# Altium schematic symbol library Microcontroller ARM.SchLib: 148 symbols (part 4 of 11)
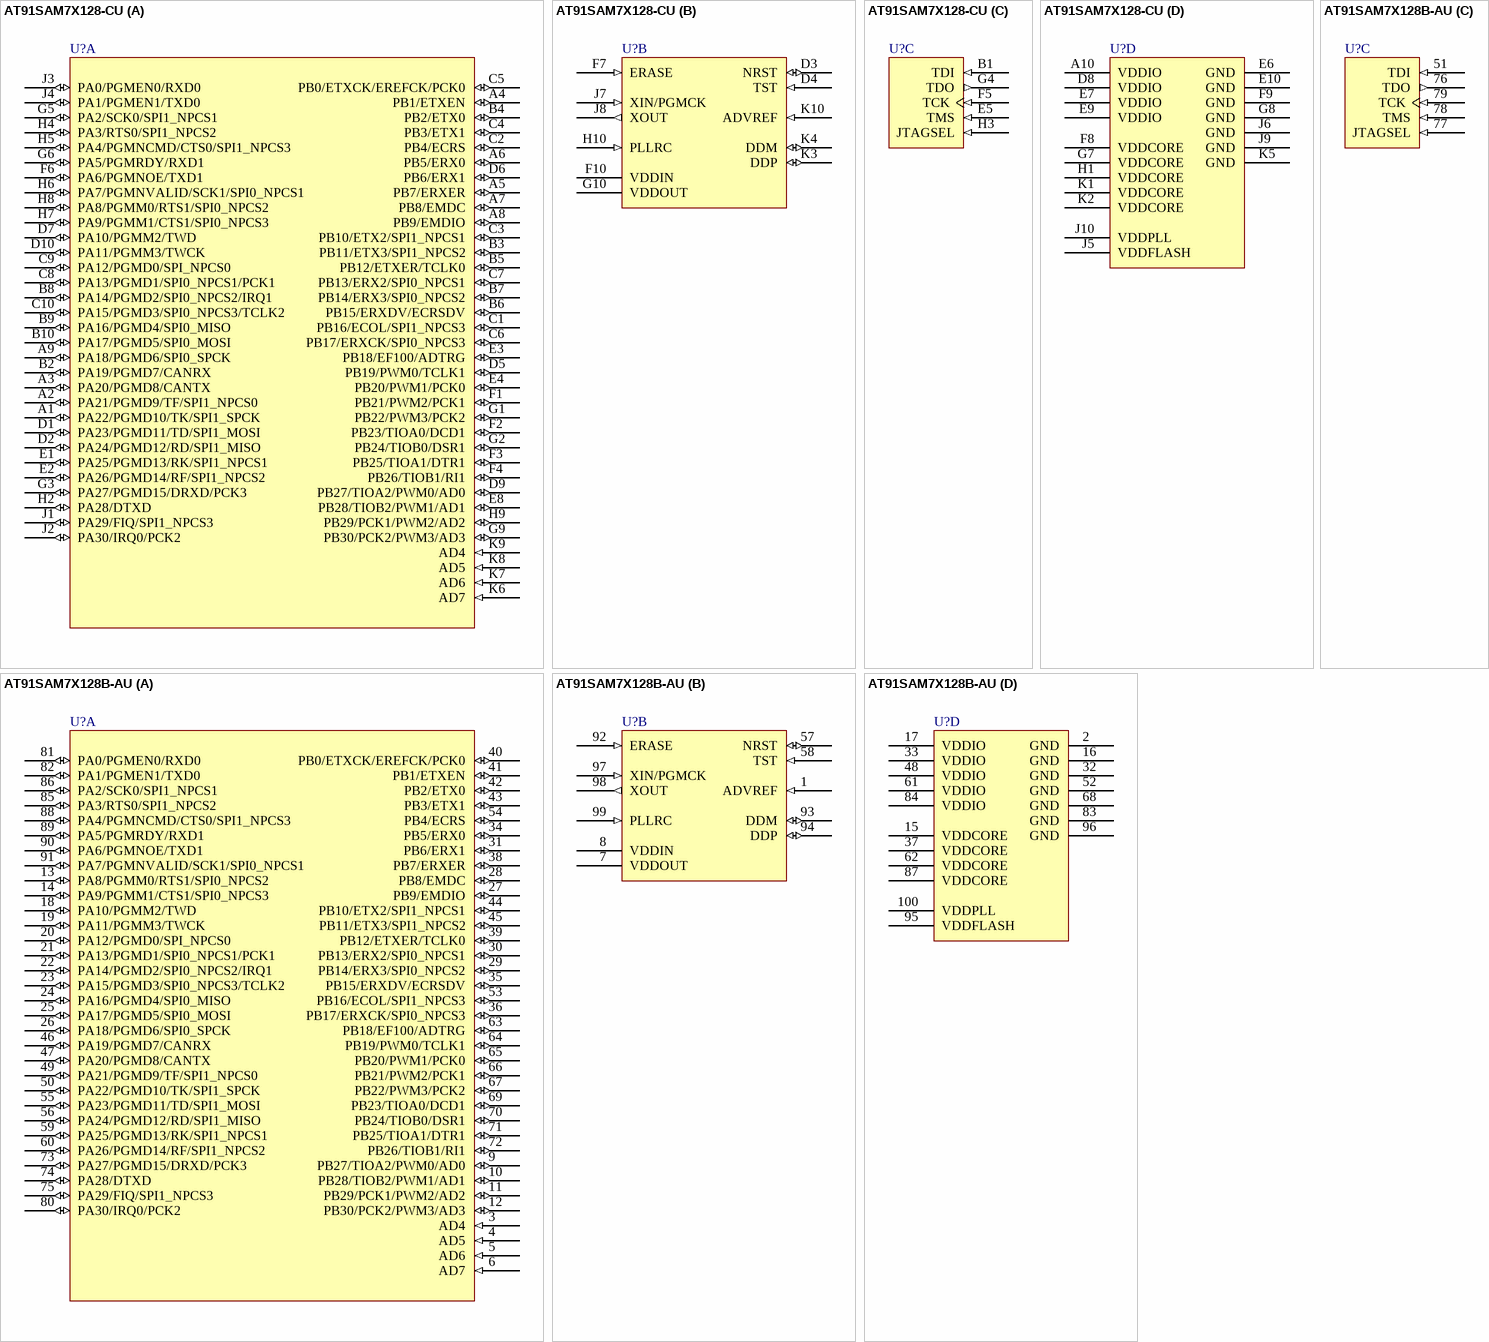
[diagram p64: symbols AT91SAM7X128-CU to AT91SAM7X128B-AU]

## AT91SAM7X128B-AU
designator U?
AT91 ARM Thumb-based 32-bit Microcontroller, 128KB Flash, 32KB SRAM, E-MAC, CAN, 100-Pin LQFP, Industrial Grade (-40°C to 85°C), Pb-Free; DatasheetVersion: revH, Feb-2009; PackageVersion: Apr-2006; PackageReference: LQFP100; PackageDescription: 100-Pin Thin Quad Flat Pack 0.5 mm Pitch; Code_JEDEC: MS-026-BED; ComponentLink1Description: Manufacturer URL; ComponentLink1URL: http://www.atmel.com/; ComponentLink2Description: AT91SAM7X Series Datasheet; ComponentLink2URL: http://www.atmel.com/dyn/resources/prod_documents/doc6120.pdf; ComponentLink3Description: AT91SAM7X Series Summary; ComponentLink3URL: http://www.atmel.com/dyn/resources/prod_documents/6120s.pdf; ComponentLink4Description: ARM7TDMI Reference Manual; ComponentLink4URL: http://www.atmel.com/dyn/resources/prod_documents/DDI0029G_7TDMI_R3_trm.pdf
footprint LQFP100_N (Thin QFP, 100-Leads, Body 14x14mm, Pitch 0.5mm, IPC Medium Density)
footprint LQFP100_L (Thin QFP, 100-Leads, Body 14x14mm, Pitch 0.5mm, IPC High Density)
footprint LQFP100_M (Thin QFP, 100-Leads, Body 14x14mm, Pitch 0.5mm, IPC Low Density)
part A pins: 3 AD4 (in), 4 AD5 (in), 5 AD6 (in), 6 AD7 (in), 9 PB27/TIOA2/PWM0/AD0 (io), 10 PB28/TIOB2/PWM1/AD1 (io), 11 PB29/PCK1/PWM2/AD2 (io), 12 PB30/PCK2/PWM3/AD3 (io), 13 PA8/PGMM0/RTS1/SPI0_NPCS2 (io), 14 PA9/PGMM1/CTS1/SPI0_NPCS3 (io), 18 PA10/PGMM2/TWD (io), 19 PA11/PGMM3/TWCK (io), 20 PA12/PGMD0/SPI_NPCS0 (io), 21 PA13/PGMD1/SPI0_NPCS1/PCK1 (io), 22 PA14/PGMD2/SPI0_NPCS2/IRQ1 (io), 23 PA15/PGMD3/SPI0_NPCS3/TCLK2 (io), 24 PA16/PGMD4/SPI0_MISO (io), 25 PA17/PGMD5/SPI0_MOSI (io), 26 PA18/PGMD6/SPI0_SPCK (io), 27 PB9/EMDIO (io), 28 PB8/EMDC (io), 29 PB14/ERX3/SPI0_NPCS2 (io), 30 PB13/ERX2/SPI0_NPCS1 (io), 31 PB6/ERX1 (io), 34 PB5/ERX0 (io), 35 PB15/ERXDV/ECRSDV (io), 36 PB17/ERXCK/SPI0_NPCS3 (io), 38 PB7/ERXER (io), 39 PB12/ETXER/TCLK0 (io), 40 PB0/ETXCK/EREFCK/PCK0 (io), 41 PB1/ETXEN (io), 42 PB2/ETX0 (io), 43 PB3/ETX1 (io), 44 PB10/ETX2/SPI1_NPCS1 (io), 45 PB11/ETX3/SPI1_NPCS2 (io), 46 PA19/PGMD7/CANRX (io), 47 PA20/PGMD8/CANTX (io), 49 PA21/PGMD9/TF/SPI1_NPCS0 (io), 50 PA22/PGMD10/TK/SPI1_SPCK (io), 53 PB16/ECOL/SPI1_NPCS3 (io), 54 PB4/ECRS (io), 55 PA23/PGMD11/TD/SPI1_MOSI (io), 56 PA24/PGMD12/RD/SPI1_MISO (io), 59 PA25/PGMD13/RK/SPI1_NPCS1 (io), 60 PA26/PGMD14/RF/SPI1_NPCS2 (io), 63 PB18/EF100/ADTRG (io), 64 PB19/PWM0/TCLK1 (io), 65 PB20/PWM1/PCK0 (io), 66 PB21/PWM2/PCK1 (io), 67 PB22/PWM3/PCK2 (io), 69 PB23/TIOA0/DCD1 (io), 70 PB24/TIOB0/DSR1 (io), 71 PB25/TIOA1/DTR1 (io), 72 PB26/TIOB1/RI1 (io), 73 PA27/PGMD15/DRXD/PCK3 (io), 74 PA28/DTXD (io), 75 PA29/FIQ/SPI1_NPCS3 (io), 80 PA30/IRQ0/PCK2 (io), 81 PA0/PGMEN0/RXD0 (io), 82 PA1/PGMEN1/TXD0 (io), 85 PA3/RTS0/SPI1_NPCS2 (io), 86 PA2/SCK0/SPI1_NPCS1 (io), 88 PA4/PGMNCMD/CTS0/SPI1_NPCS3 (io), 89 PA5/PGMRDY/RXD1 (io), 90 PA6/PGMNOE/TXD1 (io), 91 PA7/PGMNVALID/SCK1/SPI0_NPCS1 (io)
part B pins: 1 ADVREF (in), 7 VDDOUT (power), 8 VDDIN (power), 57 NRST (io), 58 TST (in), 92 ERASE (in), 93 DDM (io), 94 DDP (io), 97 XIN/PGMCK (in), 98 XOUT (out), 99 PLLRC (in)
part C pins: 51 TDI (in), 76 TDO (out), 77 JTAGSEL (in), 78 TMS (in), 79 TCK (in)
part D pins: 2 GND (power), 15 VDDCORE (power), 16 GND (power), 17 VDDIO (power), 32 GND (power), 33 VDDIO (power), 37 VDDCORE (power), 48 VDDIO (power), 52 GND (power), 61 VDDIO (power), 62 VDDCORE (power), 68 GND (power), 83 GND (power), 84 VDDIO (power), 87 VDDCORE (power), 95 VDDFLASH (power), 96 GND (power), 100 VDDPLL (power)

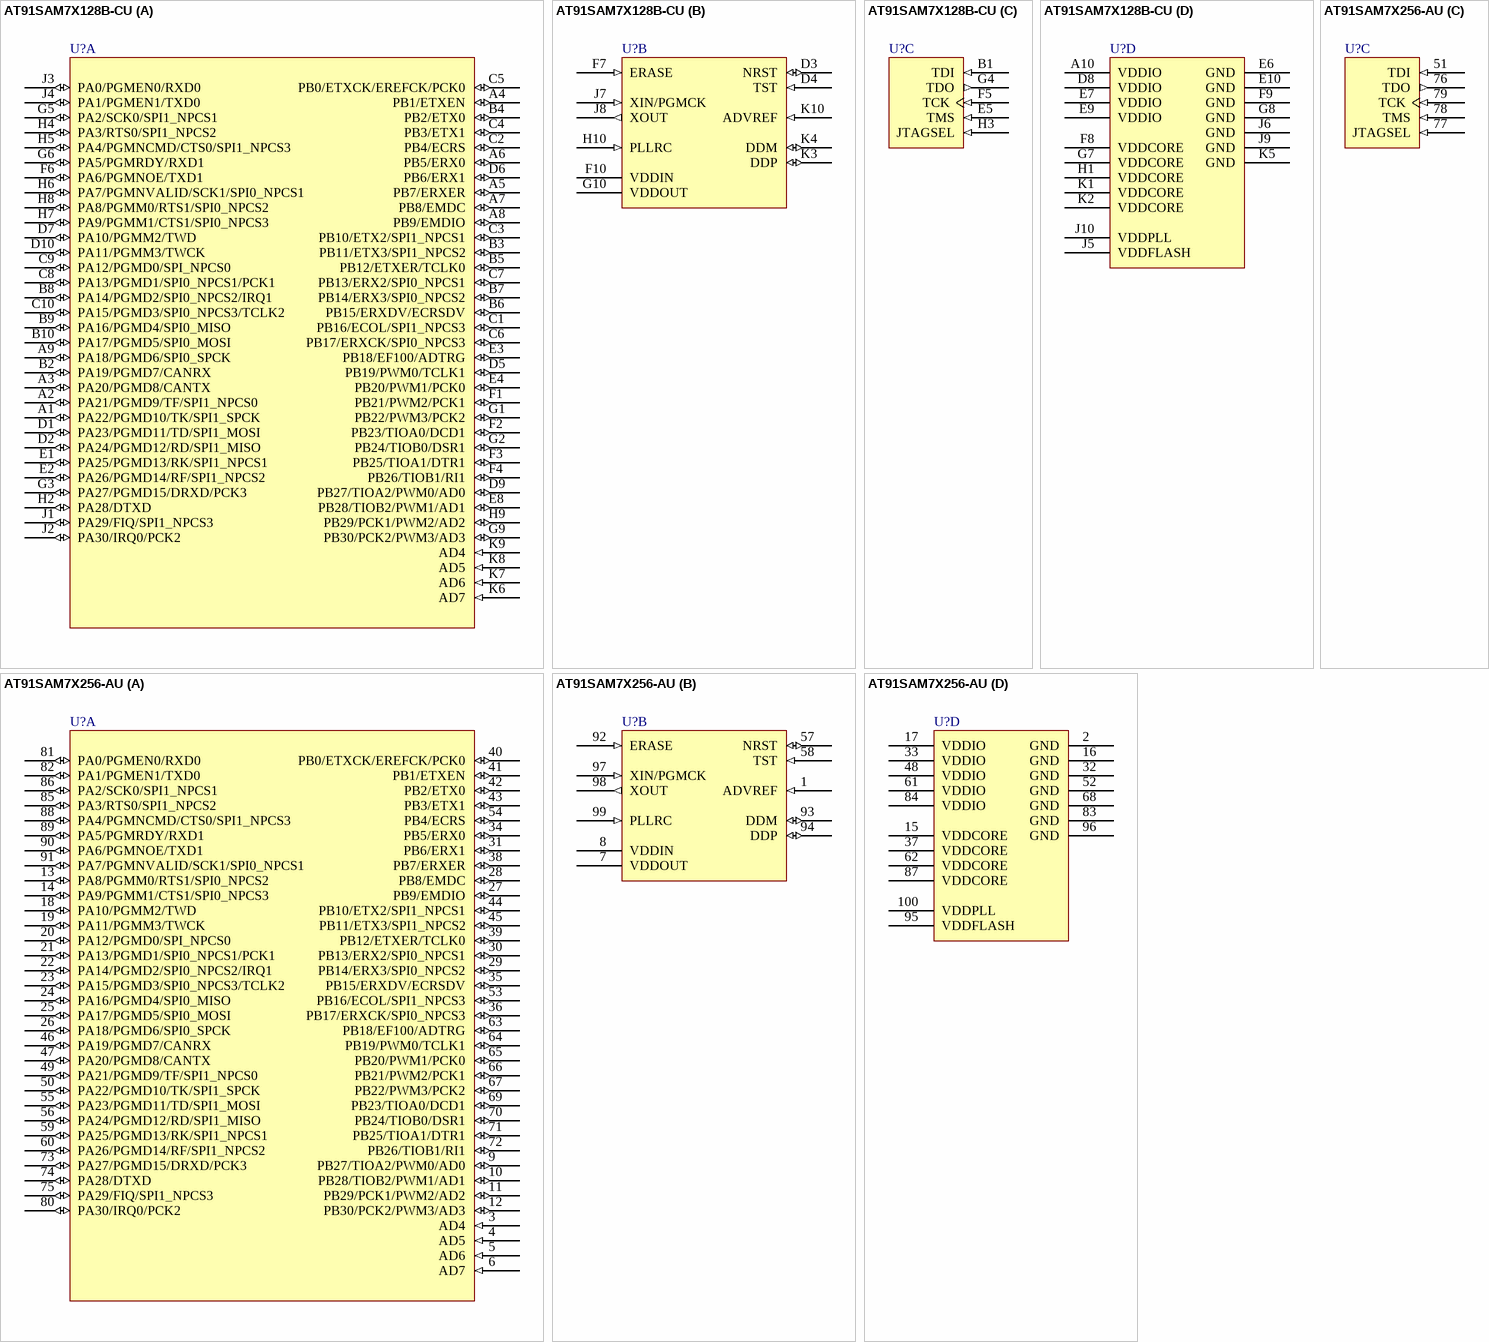
[diagram p19: symbols AT91SAM7X128B-CU to AT91SAM7X256-AU]

## AT91SAM7X128B-CU
designator U?
AT91 ARM Thumb-based 32-bit Microcontroller, 128KB Flash, 32KB SRAM, E-MAC, CAN, 100-Pin TFBGA, Industrial Grade (-40°C to 85°C), Pb-Free; DatasheetVersion: revH, Feb-2009; PackageVersion: 2004; PackageReference: TFBGA100; PackageDescription: 100-Ball Thin Fine Ball Grid Array, 9 x 9 x1.1 mm Body, 0.80 mm Pitch; ComponentLink1Description: Manufacturer URL; ComponentLink1URL: http://www.atmel.com/; ComponentLink2Description: AT91SAM7X Series Datasheet; ComponentLink2URL: http://www.atmel.com/dyn/resources/prod_documents/doc6120.pdf; ComponentLink3Description: AT91SAM7X Series Summary; ComponentLink3URL: http://www.atmel.com/dyn/resources/prod_documents/6120s.pdf; ComponentLink4Description: ARM7TDMI Reference Manual; ComponentLink4URL: http://www.atmel.com/dyn/resources/prod_documents/DDI0029G_7TDMI_R3_trm.pdf
footprint TFBGA100 (BGA, 100-Leads, Body 9x9mm, Pitch 0.8mm)
part A pins: A1 PA22/PGMD10/TK/SPI1_SPCK (io), A2 PA21/PGMD9/TF/SPI1_NPCS0 (io), A3 PA20/PGMD8/CANTX (io), A4 PB1/ETXEN (io), A5 PB7/ERXER (io), A6 PB5/ERX0 (io), A7 PB8/EMDC (io), A8 PB9/EMDIO (io), A9 PA18/PGMD6/SPI0_SPCK (io), B2 PA19/PGMD7/CANRX (io), B3 PB11/ETX3/SPI1_NPCS2 (io), B4 PB2/ETX0 (io), B5 PB12/ETXER/TCLK0 (io), B6 PB15/ERXDV/ECRSDV (io), B7 PB14/ERX3/SPI0_NPCS2 (io), B8 PA14/PGMD2/SPI0_NPCS2/IRQ1 (io), B9 PA16/PGMD4/SPI0_MISO (io), B10 PA17/PGMD5/SPI0_MOSI (io), C1 PB16/ECOL/SPI1_NPCS3 (io), C2 PB4/ECRS (io), C3 PB10/ETX2/SPI1_NPCS1 (io), C4 PB3/ETX1 (io), C5 PB0/ETXCK/EREFCK/PCK0 (io), C6 PB17/ERXCK/SPI0_NPCS3 (io), C7 PB13/ERX2/SPI0_NPCS1 (io), C8 PA13/PGMD1/SPI0_NPCS1/PCK1 (io), C9 PA12/PGMD0/SPI_NPCS0 (io), C10 PA15/PGMD3/SPI0_NPCS3/TCLK2 (io), D1 PA23/PGMD11/TD/SPI1_MOSI (io), D2 PA24/PGMD12/RD/SPI1_MISO (io), D5 PB19/PWM0/TCLK1 (io), D6 PB6/ERX1 (io), D7 PA10/PGMM2/TWD (io), D9 PB27/TIOA2/PWM0/AD0 (io), D10 PA11/PGMM3/TWCK (io), E1 PA25/PGMD13/RK/SPI1_NPCS1 (io), E2 PA26/PGMD14/RF/SPI1_NPCS2 (io), E3 PB18/EF100/ADTRG (io), E4 PB20/PWM1/PCK0 (io), E8 PB28/TIOB2/PWM1/AD1 (io), F1 PB21/PWM2/PCK1 (io), F2 PB23/TIOA0/DCD1 (io), F3 PB25/TIOA1/DTR1 (io), F4 PB26/TIOB1/RI1 (io), F6 PA6/PGMNOE/TXD1 (io), G1 PB22/PWM3/PCK2 (io), G2 PB24/TIOB0/DSR1 (io), G3 PA27/PGMD15/DRXD/PCK3 (io), G5 PA2/SCK0/SPI1_NPCS1 (io), G6 PA5/PGMRDY/RXD1 (io), G9 PB30/PCK2/PWM3/AD3 (io), H2 PA28/DTXD (io), H4 PA3/RTS0/SPI1_NPCS2 (io), H5 PA4/PGMNCMD/CTS0/SPI1_NPCS3 (io), H6 PA7/PGMNVALID/SCK1/SPI0_NPCS1 (io), H7 PA9/PGMM1/CTS1/SPI0_NPCS3 (io), H8 PA8/PGMM0/RTS1/SPI0_NPCS2 (io), H9 PB29/PCK1/PWM2/AD2 (io), J1 PA29/FIQ/SPI1_NPCS3 (io), J2 PA30/IRQ0/PCK2 (io), J3 PA0/PGMEN0/RXD0 (io), J4 PA1/PGMEN1/TXD0 (io), K6 AD7 (in), K7 AD6 (in), K8 AD5 (in), K9 AD4 (in)
part B pins: D3 NRST (io), D4 TST (in), F7 ERASE (in), F10 VDDIN (power), G10 VDDOUT (power), H10 PLLRC (in), J7 XIN/PGMCK (in), J8 XOUT (out), K3 DDP (io), K4 DDM (io), K10 ADVREF (in)
part C pins: B1 TDI (in), E5 TMS (in), F5 TCK (in), G4 TDO (out), H3 JTAGSEL (in)
part D pins: A10 VDDIO (power), D8 VDDIO (power), E6 GND (power), E7 VDDIO (power), E9 VDDIO (power), E10 GND (power), F8 VDDCORE (power), F9 GND (power), G7 VDDCORE (power), G8 GND (power), H1 VDDCORE (power), J5 VDDFLASH (power), J6 GND (power), J9 GND (power), J10 VDDPLL (power), K1 VDDCORE (power), K2 VDDCORE (power), K5 GND (power)

## AT91SAM7X256-AU
designator U?
AT91 ARM Thumb-based 32-bit Microcontroller, 256KB Flash, 64KB SRAM, E-MAC, CAN, 100-Pin LQFP, Industrial Grade (-40°C to 85°C), Pb-Free; DatasheetVersion: revH, Feb-2009; PackageVersion: Apr-2006; PackageReference: LQFP100; PackageDescription: 100-Pin Thin Quad Flat Pack 0.5 mm Pitch; Code_JEDEC: MS-026-BED; ComponentLink1Description: Manufacturer URL; ComponentLink1URL: http://www.atmel.com/; ComponentLink2Description: AT91SAM7X Series Datasheet; ComponentLink2URL: http://www.atmel.com/dyn/resources/prod_documents/doc6120.pdf; ComponentLink3Description: AT91SAM7X Series Summary; ComponentLink3URL: http://www.atmel.com/dyn/resources/prod_documents/6120s.pdf; ComponentLink4Description: ARM7TDMI Reference Manual; ComponentLink4URL: http://www.atmel.com/dyn/resources/prod_documents/DDI0029G_7TDMI_R3_trm.pdf
footprint LQFP100_N (Thin QFP, 100-Leads, Body 14x14mm, Pitch 0.5mm, IPC Medium Density)
footprint LQFP100_L (Thin QFP, 100-Leads, Body 14x14mm, Pitch 0.5mm, IPC High Density)
footprint LQFP100_M (Thin QFP, 100-Leads, Body 14x14mm, Pitch 0.5mm, IPC Low Density)
part A pins: 3 AD4 (in), 4 AD5 (in), 5 AD6 (in), 6 AD7 (in), 9 PB27/TIOA2/PWM0/AD0 (io), 10 PB28/TIOB2/PWM1/AD1 (io), 11 PB29/PCK1/PWM2/AD2 (io), 12 PB30/PCK2/PWM3/AD3 (io), 13 PA8/PGMM0/RTS1/SPI0_NPCS2 (io), 14 PA9/PGMM1/CTS1/SPI0_NPCS3 (io), 18 PA10/PGMM2/TWD (io), 19 PA11/PGMM3/TWCK (io), 20 PA12/PGMD0/SPI_NPCS0 (io), 21 PA13/PGMD1/SPI0_NPCS1/PCK1 (io), 22 PA14/PGMD2/SPI0_NPCS2/IRQ1 (io), 23 PA15/PGMD3/SPI0_NPCS3/TCLK2 (io), 24 PA16/PGMD4/SPI0_MISO (io), 25 PA17/PGMD5/SPI0_MOSI (io), 26 PA18/PGMD6/SPI0_SPCK (io), 27 PB9/EMDIO (io), 28 PB8/EMDC (io), 29 PB14/ERX3/SPI0_NPCS2 (io), 30 PB13/ERX2/SPI0_NPCS1 (io), 31 PB6/ERX1 (io), 34 PB5/ERX0 (io), 35 PB15/ERXDV/ECRSDV (io), 36 PB17/ERXCK/SPI0_NPCS3 (io), 38 PB7/ERXER (io), 39 PB12/ETXER/TCLK0 (io), 40 PB0/ETXCK/EREFCK/PCK0 (io), 41 PB1/ETXEN (io), 42 PB2/ETX0 (io), 43 PB3/ETX1 (io), 44 PB10/ETX2/SPI1_NPCS1 (io), 45 PB11/ETX3/SPI1_NPCS2 (io), 46 PA19/PGMD7/CANRX (io), 47 PA20/PGMD8/CANTX (io), 49 PA21/PGMD9/TF/SPI1_NPCS0 (io), 50 PA22/PGMD10/TK/SPI1_SPCK (io), 53 PB16/ECOL/SPI1_NPCS3 (io), 54 PB4/ECRS (io), 55 PA23/PGMD11/TD/SPI1_MOSI (io), 56 PA24/PGMD12/RD/SPI1_MISO (io), 59 PA25/PGMD13/RK/SPI1_NPCS1 (io), 60 PA26/PGMD14/RF/SPI1_NPCS2 (io), 63 PB18/EF100/ADTRG (io), 64 PB19/PWM0/TCLK1 (io), 65 PB20/PWM1/PCK0 (io), 66 PB21/PWM2/PCK1 (io), 67 PB22/PWM3/PCK2 (io), 69 PB23/TIOA0/DCD1 (io), 70 PB24/TIOB0/DSR1 (io), 71 PB25/TIOA1/DTR1 (io), 72 PB26/TIOB1/RI1 (io), 73 PA27/PGMD15/DRXD/PCK3 (io), 74 PA28/DTXD (io), 75 PA29/FIQ/SPI1_NPCS3 (io), 80 PA30/IRQ0/PCK2 (io), 81 PA0/PGMEN0/RXD0 (io), 82 PA1/PGMEN1/TXD0 (io), 85 PA3/RTS0/SPI1_NPCS2 (io), 86 PA2/SCK0/SPI1_NPCS1 (io), 88 PA4/PGMNCMD/CTS0/SPI1_NPCS3 (io), 89 PA5/PGMRDY/RXD1 (io), 90 PA6/PGMNOE/TXD1 (io), 91 PA7/PGMNVALID/SCK1/SPI0_NPCS1 (io)
part B pins: 1 ADVREF (in), 7 VDDOUT (power), 8 VDDIN (power), 57 NRST (io), 58 TST (in), 92 ERASE (in), 93 DDM (io), 94 DDP (io), 97 XIN/PGMCK (in), 98 XOUT (out), 99 PLLRC (in)
part C pins: 51 TDI (in), 76 TDO (out), 77 JTAGSEL (in), 78 TMS (in), 79 TCK (in)
part D pins: 2 GND (power), 15 VDDCORE (power), 16 GND (power), 17 VDDIO (power), 32 GND (power), 33 VDDIO (power), 37 VDDCORE (power), 48 VDDIO (power), 52 GND (power), 61 VDDIO (power), 62 VDDCORE (power), 68 GND (power), 83 GND (power), 84 VDDIO (power), 87 VDDCORE (power), 95 VDDFLASH (power), 96 GND (power), 100 VDDPLL (power)

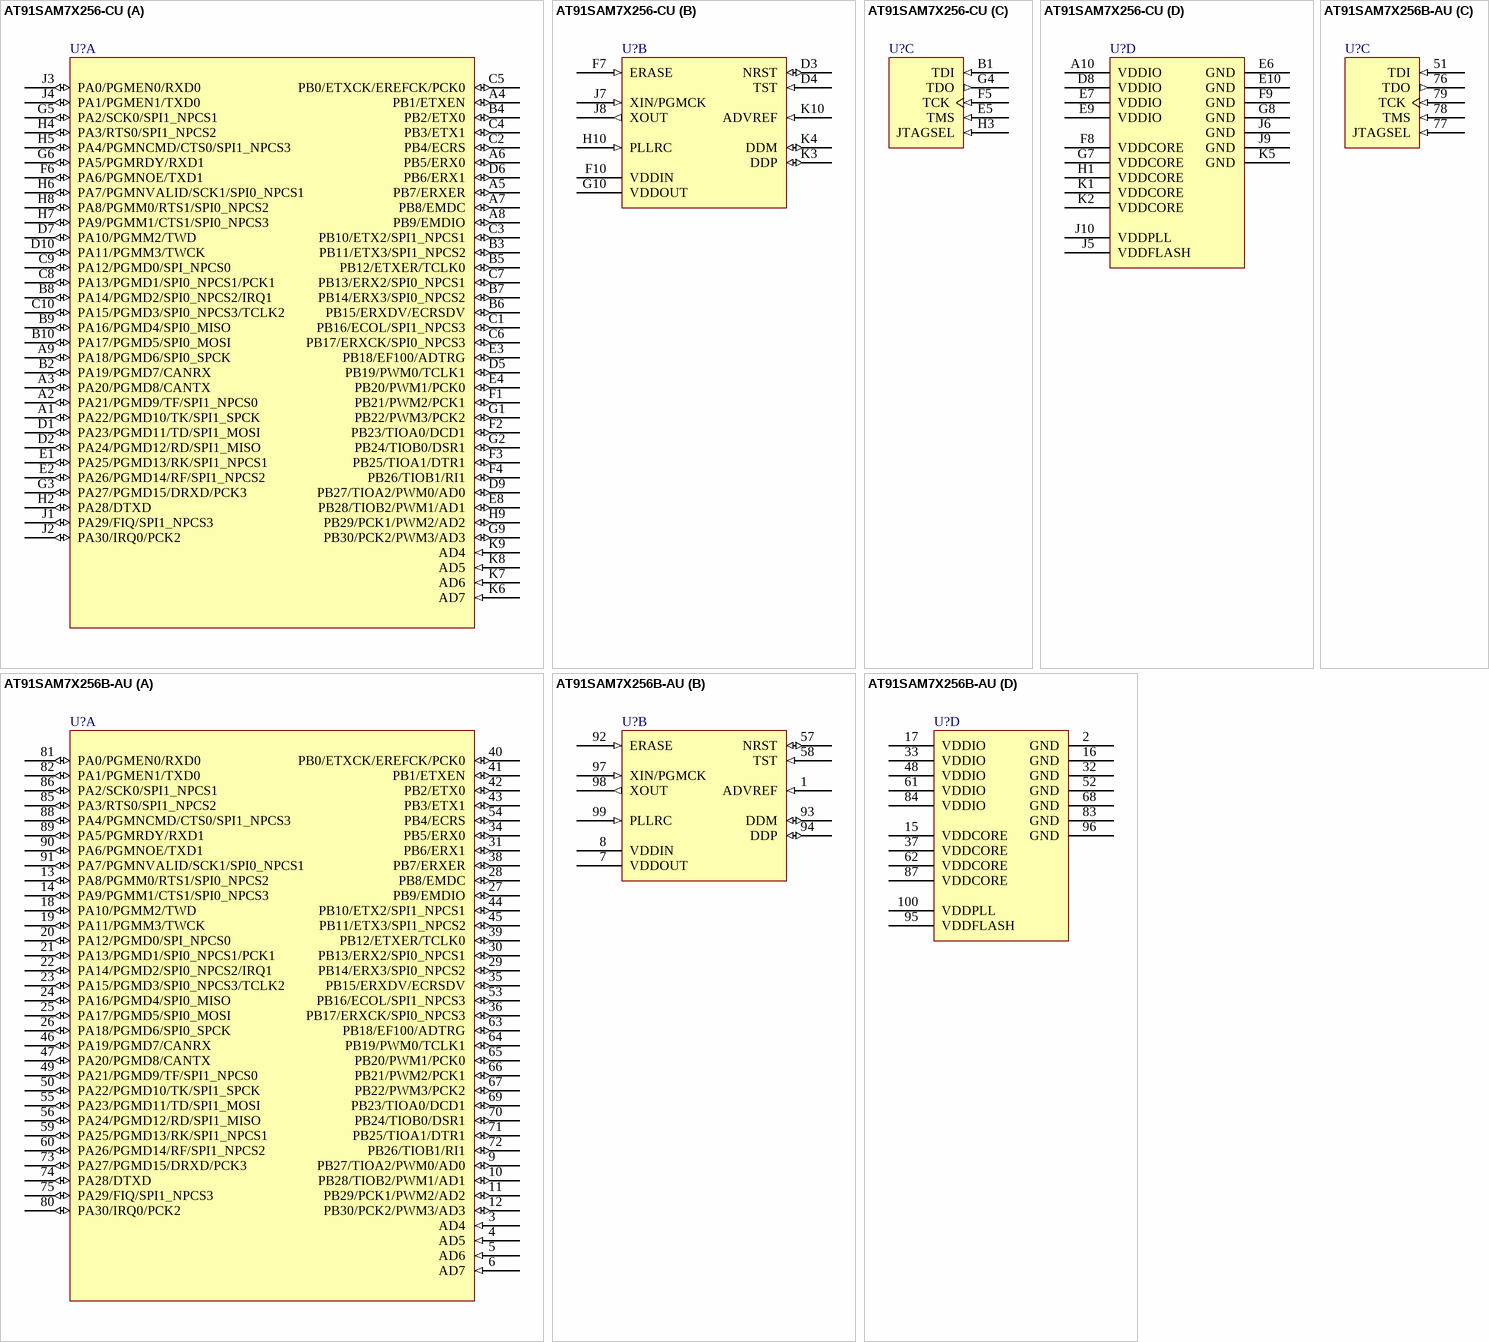
[diagram p20: symbols AT91SAM7X256-CU to AT91SAM7X256B-AU]

## AT91SAM7X256-CU
designator U?
AT91 ARM Thumb-based 32-bit Microcontroller, 256KB Flash, 64KB SRAM, E-MAC, CAN, 100-Pin TFBGA, Industrial Grade (-40°C to 85°C), Pb-Free; DatasheetVersion: revH, Feb-2009; PackageVersion: 2004; PackageReference: TFBGA100; PackageDescription: 100-Ball Thin Fine Ball Grid Array, 9 x 9 x1.1 mm Body, 0.80 mm Pitch; ComponentLink1Description: Manufacturer URL; ComponentLink1URL: http://www.atmel.com/; ComponentLink2Description: AT91SAM7X Series Datasheet; ComponentLink2URL: http://www.atmel.com/dyn/resources/prod_documents/doc6120.pdf; ComponentLink3Description: AT91SAM7X Series Summary; ComponentLink3URL: http://www.atmel.com/dyn/resources/prod_documents/6120s.pdf; ComponentLink4Description: ARM7TDMI Reference Manual; ComponentLink4URL: http://www.atmel.com/dyn/resources/prod_documents/DDI0029G_7TDMI_R3_trm.pdf
footprint TFBGA100 (BGA, 100-Leads, Body 9x9mm, Pitch 0.8mm)
part A pins: A1 PA22/PGMD10/TK/SPI1_SPCK (io), A2 PA21/PGMD9/TF/SPI1_NPCS0 (io), A3 PA20/PGMD8/CANTX (io), A4 PB1/ETXEN (io), A5 PB7/ERXER (io), A6 PB5/ERX0 (io), A7 PB8/EMDC (io), A8 PB9/EMDIO (io), A9 PA18/PGMD6/SPI0_SPCK (io), B2 PA19/PGMD7/CANRX (io), B3 PB11/ETX3/SPI1_NPCS2 (io), B4 PB2/ETX0 (io), B5 PB12/ETXER/TCLK0 (io), B6 PB15/ERXDV/ECRSDV (io), B7 PB14/ERX3/SPI0_NPCS2 (io), B8 PA14/PGMD2/SPI0_NPCS2/IRQ1 (io), B9 PA16/PGMD4/SPI0_MISO (io), B10 PA17/PGMD5/SPI0_MOSI (io), C1 PB16/ECOL/SPI1_NPCS3 (io), C2 PB4/ECRS (io), C3 PB10/ETX2/SPI1_NPCS1 (io), C4 PB3/ETX1 (io), C5 PB0/ETXCK/EREFCK/PCK0 (io), C6 PB17/ERXCK/SPI0_NPCS3 (io), C7 PB13/ERX2/SPI0_NPCS1 (io), C8 PA13/PGMD1/SPI0_NPCS1/PCK1 (io), C9 PA12/PGMD0/SPI_NPCS0 (io), C10 PA15/PGMD3/SPI0_NPCS3/TCLK2 (io), D1 PA23/PGMD11/TD/SPI1_MOSI (io), D2 PA24/PGMD12/RD/SPI1_MISO (io), D5 PB19/PWM0/TCLK1 (io), D6 PB6/ERX1 (io), D7 PA10/PGMM2/TWD (io), D9 PB27/TIOA2/PWM0/AD0 (io), D10 PA11/PGMM3/TWCK (io), E1 PA25/PGMD13/RK/SPI1_NPCS1 (io), E2 PA26/PGMD14/RF/SPI1_NPCS2 (io), E3 PB18/EF100/ADTRG (io), E4 PB20/PWM1/PCK0 (io), E8 PB28/TIOB2/PWM1/AD1 (io), F1 PB21/PWM2/PCK1 (io), F2 PB23/TIOA0/DCD1 (io), F3 PB25/TIOA1/DTR1 (io), F4 PB26/TIOB1/RI1 (io), F6 PA6/PGMNOE/TXD1 (io), G1 PB22/PWM3/PCK2 (io), G2 PB24/TIOB0/DSR1 (io), G3 PA27/PGMD15/DRXD/PCK3 (io), G5 PA2/SCK0/SPI1_NPCS1 (io), G6 PA5/PGMRDY/RXD1 (io), G9 PB30/PCK2/PWM3/AD3 (io), H2 PA28/DTXD (io), H4 PA3/RTS0/SPI1_NPCS2 (io), H5 PA4/PGMNCMD/CTS0/SPI1_NPCS3 (io), H6 PA7/PGMNVALID/SCK1/SPI0_NPCS1 (io), H7 PA9/PGMM1/CTS1/SPI0_NPCS3 (io), H8 PA8/PGMM0/RTS1/SPI0_NPCS2 (io), H9 PB29/PCK1/PWM2/AD2 (io), J1 PA29/FIQ/SPI1_NPCS3 (io), J2 PA30/IRQ0/PCK2 (io), J3 PA0/PGMEN0/RXD0 (io), J4 PA1/PGMEN1/TXD0 (io), K6 AD7 (in), K7 AD6 (in), K8 AD5 (in), K9 AD4 (in)
part B pins: D3 NRST (io), D4 TST (in), F7 ERASE (in), F10 VDDIN (power), G10 VDDOUT (power), H10 PLLRC (in), J7 XIN/PGMCK (in), J8 XOUT (out), K3 DDP (io), K4 DDM (io), K10 ADVREF (in)
part C pins: B1 TDI (in), E5 TMS (in), F5 TCK (in), G4 TDO (out), H3 JTAGSEL (in)
part D pins: A10 VDDIO (power), D8 VDDIO (power), E6 GND (power), E7 VDDIO (power), E9 VDDIO (power), E10 GND (power), F8 VDDCORE (power), F9 GND (power), G7 VDDCORE (power), G8 GND (power), H1 VDDCORE (power), J5 VDDFLASH (power), J6 GND (power), J9 GND (power), J10 VDDPLL (power), K1 VDDCORE (power), K2 VDDCORE (power), K5 GND (power)

## AT91SAM7X256B-AU
designator U?
AT91 ARM Thumb-based 32-bit Microcontroller, 256KB Flash, 64KB SRAM, E-MAC, CAN, 100-Pin LQFP, Industrial Grade (-40°C to 85°C), Pb-Free; DatasheetVersion: revH, Feb-2009; PackageVersion: Apr-2006; PackageReference: LQFP100; PackageDescription: 100-Pin Thin Quad Flat Pack 0.5 mm Pitch; Code_JEDEC: MS-026-BED; ComponentLink1Description: Manufacturer URL; ComponentLink1URL: http://www.atmel.com/; ComponentLink2Description: AT91SAM7X Series Datasheet; ComponentLink2URL: http://www.atmel.com/dyn/resources/prod_documents/doc6120.pdf; ComponentLink3Description: AT91SAM7X Series Summary; ComponentLink3URL: http://www.atmel.com/dyn/resources/prod_documents/6120s.pdf; ComponentLink4Description: ARM7TDMI Reference Manual; ComponentLink4URL: http://www.atmel.com/dyn/resources/prod_documents/DDI0029G_7TDMI_R3_trm.pdf
footprint LQFP100_N (Thin QFP, 100-Leads, Body 14x14mm, Pitch 0.5mm, IPC Medium Density)
footprint LQFP100_L (Thin QFP, 100-Leads, Body 14x14mm, Pitch 0.5mm, IPC High Density)
footprint LQFP100_M (Thin QFP, 100-Leads, Body 14x14mm, Pitch 0.5mm, IPC Low Density)
part A pins: 3 AD4 (in), 4 AD5 (in), 5 AD6 (in), 6 AD7 (in), 9 PB27/TIOA2/PWM0/AD0 (io), 10 PB28/TIOB2/PWM1/AD1 (io), 11 PB29/PCK1/PWM2/AD2 (io), 12 PB30/PCK2/PWM3/AD3 (io), 13 PA8/PGMM0/RTS1/SPI0_NPCS2 (io), 14 PA9/PGMM1/CTS1/SPI0_NPCS3 (io), 18 PA10/PGMM2/TWD (io), 19 PA11/PGMM3/TWCK (io), 20 PA12/PGMD0/SPI_NPCS0 (io), 21 PA13/PGMD1/SPI0_NPCS1/PCK1 (io), 22 PA14/PGMD2/SPI0_NPCS2/IRQ1 (io), 23 PA15/PGMD3/SPI0_NPCS3/TCLK2 (io), 24 PA16/PGMD4/SPI0_MISO (io), 25 PA17/PGMD5/SPI0_MOSI (io), 26 PA18/PGMD6/SPI0_SPCK (io), 27 PB9/EMDIO (io), 28 PB8/EMDC (io), 29 PB14/ERX3/SPI0_NPCS2 (io), 30 PB13/ERX2/SPI0_NPCS1 (io), 31 PB6/ERX1 (io), 34 PB5/ERX0 (io), 35 PB15/ERXDV/ECRSDV (io), 36 PB17/ERXCK/SPI0_NPCS3 (io), 38 PB7/ERXER (io), 39 PB12/ETXER/TCLK0 (io), 40 PB0/ETXCK/EREFCK/PCK0 (io), 41 PB1/ETXEN (io), 42 PB2/ETX0 (io), 43 PB3/ETX1 (io), 44 PB10/ETX2/SPI1_NPCS1 (io), 45 PB11/ETX3/SPI1_NPCS2 (io), 46 PA19/PGMD7/CANRX (io), 47 PA20/PGMD8/CANTX (io), 49 PA21/PGMD9/TF/SPI1_NPCS0 (io), 50 PA22/PGMD10/TK/SPI1_SPCK (io), 53 PB16/ECOL/SPI1_NPCS3 (io), 54 PB4/ECRS (io), 55 PA23/PGMD11/TD/SPI1_MOSI (io), 56 PA24/PGMD12/RD/SPI1_MISO (io), 59 PA25/PGMD13/RK/SPI1_NPCS1 (io), 60 PA26/PGMD14/RF/SPI1_NPCS2 (io), 63 PB18/EF100/ADTRG (io), 64 PB19/PWM0/TCLK1 (io), 65 PB20/PWM1/PCK0 (io), 66 PB21/PWM2/PCK1 (io), 67 PB22/PWM3/PCK2 (io), 69 PB23/TIOA0/DCD1 (io), 70 PB24/TIOB0/DSR1 (io), 71 PB25/TIOA1/DTR1 (io), 72 PB26/TIOB1/RI1 (io), 73 PA27/PGMD15/DRXD/PCK3 (io), 74 PA28/DTXD (io), 75 PA29/FIQ/SPI1_NPCS3 (io), 80 PA30/IRQ0/PCK2 (io), 81 PA0/PGMEN0/RXD0 (io), 82 PA1/PGMEN1/TXD0 (io), 85 PA3/RTS0/SPI1_NPCS2 (io), 86 PA2/SCK0/SPI1_NPCS1 (io), 88 PA4/PGMNCMD/CTS0/SPI1_NPCS3 (io), 89 PA5/PGMRDY/RXD1 (io), 90 PA6/PGMNOE/TXD1 (io), 91 PA7/PGMNVALID/SCK1/SPI0_NPCS1 (io)
part B pins: 1 ADVREF (in), 7 VDDOUT (power), 8 VDDIN (power), 57 NRST (io), 58 TST (in), 92 ERASE (in), 93 DDM (io), 94 DDP (io), 97 XIN/PGMCK (in), 98 XOUT (out), 99 PLLRC (in)
part C pins: 51 TDI (in), 76 TDO (out), 77 JTAGSEL (in), 78 TMS (in), 79 TCK (in)
part D pins: 2 GND (power), 15 VDDCORE (power), 16 GND (power), 17 VDDIO (power), 32 GND (power), 33 VDDIO (power), 37 VDDCORE (power), 48 VDDIO (power), 52 GND (power), 61 VDDIO (power), 62 VDDCORE (power), 68 GND (power), 83 GND (power), 84 VDDIO (power), 87 VDDCORE (power), 95 VDDFLASH (power), 96 GND (power), 100 VDDPLL (power)

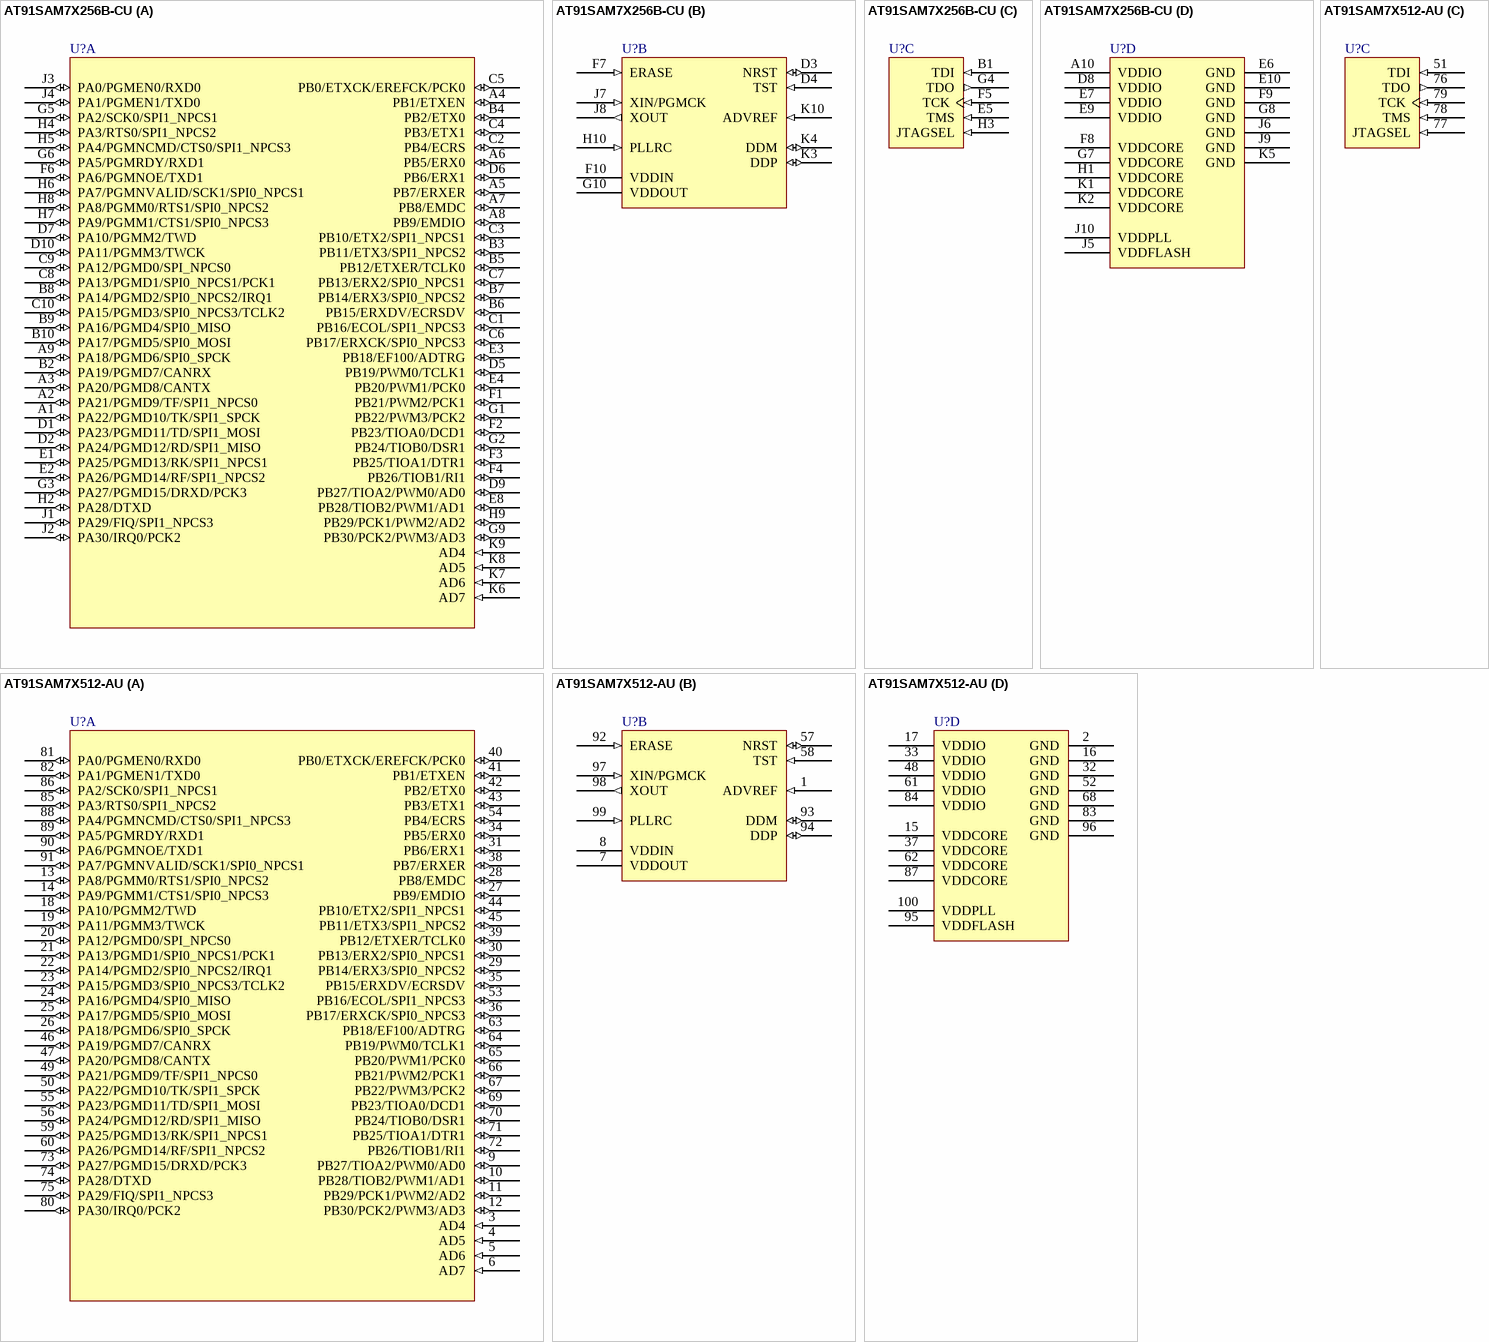
[diagram p21: symbols AT91SAM7X256B-CU to AT91SAM7X512-AU]

## AT91SAM7X256B-CU
designator U?
AT91 ARM Thumb-based 32-bit Microcontroller, 256KB Flash, 64KB SRAM, E-MAC, CAN, 100-Pin TFBGA, Industrial Grade (-40°C to 85°C), Pb-Free; DatasheetVersion: revH, Feb-2009; PackageVersion: 2004; PackageReference: TFBGA100; PackageDescription: 100-Ball Thin Fine Ball Grid Array, 9 x 9 x1.1 mm Body, 0.80 mm Pitch; ComponentLink1Description: Manufacturer URL; ComponentLink1URL: http://www.atmel.com/; ComponentLink2Description: AT91SAM7X Series Datasheet; ComponentLink2URL: http://www.atmel.com/dyn/resources/prod_documents/doc6120.pdf; ComponentLink3Description: AT91SAM7X Series Summary; ComponentLink3URL: http://www.atmel.com/dyn/resources/prod_documents/6120s.pdf; ComponentLink4Description: ARM7TDMI Reference Manual; ComponentLink4URL: http://www.atmel.com/dyn/resources/prod_documents/DDI0029G_7TDMI_R3_trm.pdf
footprint TFBGA100 (BGA, 100-Leads, Body 9x9mm, Pitch 0.8mm)
part A pins: A1 PA22/PGMD10/TK/SPI1_SPCK (io), A2 PA21/PGMD9/TF/SPI1_NPCS0 (io), A3 PA20/PGMD8/CANTX (io), A4 PB1/ETXEN (io), A5 PB7/ERXER (io), A6 PB5/ERX0 (io), A7 PB8/EMDC (io), A8 PB9/EMDIO (io), A9 PA18/PGMD6/SPI0_SPCK (io), B2 PA19/PGMD7/CANRX (io), B3 PB11/ETX3/SPI1_NPCS2 (io), B4 PB2/ETX0 (io), B5 PB12/ETXER/TCLK0 (io), B6 PB15/ERXDV/ECRSDV (io), B7 PB14/ERX3/SPI0_NPCS2 (io), B8 PA14/PGMD2/SPI0_NPCS2/IRQ1 (io), B9 PA16/PGMD4/SPI0_MISO (io), B10 PA17/PGMD5/SPI0_MOSI (io), C1 PB16/ECOL/SPI1_NPCS3 (io), C2 PB4/ECRS (io), C3 PB10/ETX2/SPI1_NPCS1 (io), C4 PB3/ETX1 (io), C5 PB0/ETXCK/EREFCK/PCK0 (io), C6 PB17/ERXCK/SPI0_NPCS3 (io), C7 PB13/ERX2/SPI0_NPCS1 (io), C8 PA13/PGMD1/SPI0_NPCS1/PCK1 (io), C9 PA12/PGMD0/SPI_NPCS0 (io), C10 PA15/PGMD3/SPI0_NPCS3/TCLK2 (io), D1 PA23/PGMD11/TD/SPI1_MOSI (io), D2 PA24/PGMD12/RD/SPI1_MISO (io), D5 PB19/PWM0/TCLK1 (io), D6 PB6/ERX1 (io), D7 PA10/PGMM2/TWD (io), D9 PB27/TIOA2/PWM0/AD0 (io), D10 PA11/PGMM3/TWCK (io), E1 PA25/PGMD13/RK/SPI1_NPCS1 (io), E2 PA26/PGMD14/RF/SPI1_NPCS2 (io), E3 PB18/EF100/ADTRG (io), E4 PB20/PWM1/PCK0 (io), E8 PB28/TIOB2/PWM1/AD1 (io), F1 PB21/PWM2/PCK1 (io), F2 PB23/TIOA0/DCD1 (io), F3 PB25/TIOA1/DTR1 (io), F4 PB26/TIOB1/RI1 (io), F6 PA6/PGMNOE/TXD1 (io), G1 PB22/PWM3/PCK2 (io), G2 PB24/TIOB0/DSR1 (io), G3 PA27/PGMD15/DRXD/PCK3 (io), G5 PA2/SCK0/SPI1_NPCS1 (io), G6 PA5/PGMRDY/RXD1 (io), G9 PB30/PCK2/PWM3/AD3 (io), H2 PA28/DTXD (io), H4 PA3/RTS0/SPI1_NPCS2 (io), H5 PA4/PGMNCMD/CTS0/SPI1_NPCS3 (io), H6 PA7/PGMNVALID/SCK1/SPI0_NPCS1 (io), H7 PA9/PGMM1/CTS1/SPI0_NPCS3 (io), H8 PA8/PGMM0/RTS1/SPI0_NPCS2 (io), H9 PB29/PCK1/PWM2/AD2 (io), J1 PA29/FIQ/SPI1_NPCS3 (io), J2 PA30/IRQ0/PCK2 (io), J3 PA0/PGMEN0/RXD0 (io), J4 PA1/PGMEN1/TXD0 (io), K6 AD7 (in), K7 AD6 (in), K8 AD5 (in), K9 AD4 (in)
part B pins: D3 NRST (io), D4 TST (in), F7 ERASE (in), F10 VDDIN (power), G10 VDDOUT (power), H10 PLLRC (in), J7 XIN/PGMCK (in), J8 XOUT (out), K3 DDP (io), K4 DDM (io), K10 ADVREF (in)
part C pins: B1 TDI (in), E5 TMS (in), F5 TCK (in), G4 TDO (out), H3 JTAGSEL (in)
part D pins: A10 VDDIO (power), D8 VDDIO (power), E6 GND (power), E7 VDDIO (power), E9 VDDIO (power), E10 GND (power), F8 VDDCORE (power), F9 GND (power), G7 VDDCORE (power), G8 GND (power), H1 VDDCORE (power), J5 VDDFLASH (power), J6 GND (power), J9 GND (power), J10 VDDPLL (power), K1 VDDCORE (power), K2 VDDCORE (power), K5 GND (power)

## AT91SAM7X512-AU
designator U?
AT91 ARM Thumb-based 32-bit Microcontroller, 512KB Flash, 128KB SRAM, E-MAC, CAN, 100-Pin LQFP, Industrial Grade (-40°C to 85°C), Pb-Free; DatasheetVersion: revH, Feb-2009; PackageVersion: Apr-2006; PackageReference: LQFP100; PackageDescription: 100-Pin Thin Quad Flat Pack 0.5 mm Pitch; Code_JEDEC: MS-026-BED; ComponentLink1Description: Manufacturer URL; ComponentLink1URL: http://www.atmel.com/; ComponentLink2Description: AT91SAM7X Series Datasheet; ComponentLink2URL: http://www.atmel.com/dyn/resources/prod_documents/doc6120.pdf; ComponentLink3Description: AT91SAM7X Series Summary; ComponentLink3URL: http://www.atmel.com/dyn/resources/prod_documents/6120s.pdf; ComponentLink4Description: ARM7TDMI Reference Manual; ComponentLink4URL: http://www.atmel.com/dyn/resources/prod_documents/DDI0029G_7TDMI_R3_trm.pdf
footprint LQFP100_N (Thin QFP, 100-Leads, Body 14x14mm, Pitch 0.5mm, IPC Medium Density)
footprint LQFP100_L (Thin QFP, 100-Leads, Body 14x14mm, Pitch 0.5mm, IPC High Density)
footprint LQFP100_M (Thin QFP, 100-Leads, Body 14x14mm, Pitch 0.5mm, IPC Low Density)
part A pins: 3 AD4 (in), 4 AD5 (in), 5 AD6 (in), 6 AD7 (in), 9 PB27/TIOA2/PWM0/AD0 (io), 10 PB28/TIOB2/PWM1/AD1 (io), 11 PB29/PCK1/PWM2/AD2 (io), 12 PB30/PCK2/PWM3/AD3 (io), 13 PA8/PGMM0/RTS1/SPI0_NPCS2 (io), 14 PA9/PGMM1/CTS1/SPI0_NPCS3 (io), 18 PA10/PGMM2/TWD (io), 19 PA11/PGMM3/TWCK (io), 20 PA12/PGMD0/SPI_NPCS0 (io), 21 PA13/PGMD1/SPI0_NPCS1/PCK1 (io), 22 PA14/PGMD2/SPI0_NPCS2/IRQ1 (io), 23 PA15/PGMD3/SPI0_NPCS3/TCLK2 (io), 24 PA16/PGMD4/SPI0_MISO (io), 25 PA17/PGMD5/SPI0_MOSI (io), 26 PA18/PGMD6/SPI0_SPCK (io), 27 PB9/EMDIO (io), 28 PB8/EMDC (io), 29 PB14/ERX3/SPI0_NPCS2 (io), 30 PB13/ERX2/SPI0_NPCS1 (io), 31 PB6/ERX1 (io), 34 PB5/ERX0 (io), 35 PB15/ERXDV/ECRSDV (io), 36 PB17/ERXCK/SPI0_NPCS3 (io), 38 PB7/ERXER (io), 39 PB12/ETXER/TCLK0 (io), 40 PB0/ETXCK/EREFCK/PCK0 (io), 41 PB1/ETXEN (io), 42 PB2/ETX0 (io), 43 PB3/ETX1 (io), 44 PB10/ETX2/SPI1_NPCS1 (io), 45 PB11/ETX3/SPI1_NPCS2 (io), 46 PA19/PGMD7/CANRX (io), 47 PA20/PGMD8/CANTX (io), 49 PA21/PGMD9/TF/SPI1_NPCS0 (io), 50 PA22/PGMD10/TK/SPI1_SPCK (io), 53 PB16/ECOL/SPI1_NPCS3 (io), 54 PB4/ECRS (io), 55 PA23/PGMD11/TD/SPI1_MOSI (io), 56 PA24/PGMD12/RD/SPI1_MISO (io), 59 PA25/PGMD13/RK/SPI1_NPCS1 (io), 60 PA26/PGMD14/RF/SPI1_NPCS2 (io), 63 PB18/EF100/ADTRG (io), 64 PB19/PWM0/TCLK1 (io), 65 PB20/PWM1/PCK0 (io), 66 PB21/PWM2/PCK1 (io), 67 PB22/PWM3/PCK2 (io), 69 PB23/TIOA0/DCD1 (io), 70 PB24/TIOB0/DSR1 (io), 71 PB25/TIOA1/DTR1 (io), 72 PB26/TIOB1/RI1 (io), 73 PA27/PGMD15/DRXD/PCK3 (io), 74 PA28/DTXD (io), 75 PA29/FIQ/SPI1_NPCS3 (io), 80 PA30/IRQ0/PCK2 (io), 81 PA0/PGMEN0/RXD0 (io), 82 PA1/PGMEN1/TXD0 (io), 85 PA3/RTS0/SPI1_NPCS2 (io), 86 PA2/SCK0/SPI1_NPCS1 (io), 88 PA4/PGMNCMD/CTS0/SPI1_NPCS3 (io), 89 PA5/PGMRDY/RXD1 (io), 90 PA6/PGMNOE/TXD1 (io), 91 PA7/PGMNVALID/SCK1/SPI0_NPCS1 (io)
part B pins: 1 ADVREF (in), 7 VDDOUT (power), 8 VDDIN (power), 57 NRST (io), 58 TST (in), 92 ERASE (in), 93 DDM (io), 94 DDP (io), 97 XIN/PGMCK (in), 98 XOUT (out), 99 PLLRC (in)
part C pins: 51 TDI (in), 76 TDO (out), 77 JTAGSEL (in), 78 TMS (in), 79 TCK (in)
part D pins: 2 GND (power), 15 VDDCORE (power), 16 GND (power), 17 VDDIO (power), 32 GND (power), 33 VDDIO (power), 37 VDDCORE (power), 48 VDDIO (power), 52 GND (power), 61 VDDIO (power), 62 VDDCORE (power), 68 GND (power), 83 GND (power), 84 VDDIO (power), 87 VDDCORE (power), 95 VDDFLASH (power), 96 GND (power), 100 VDDPLL (power)

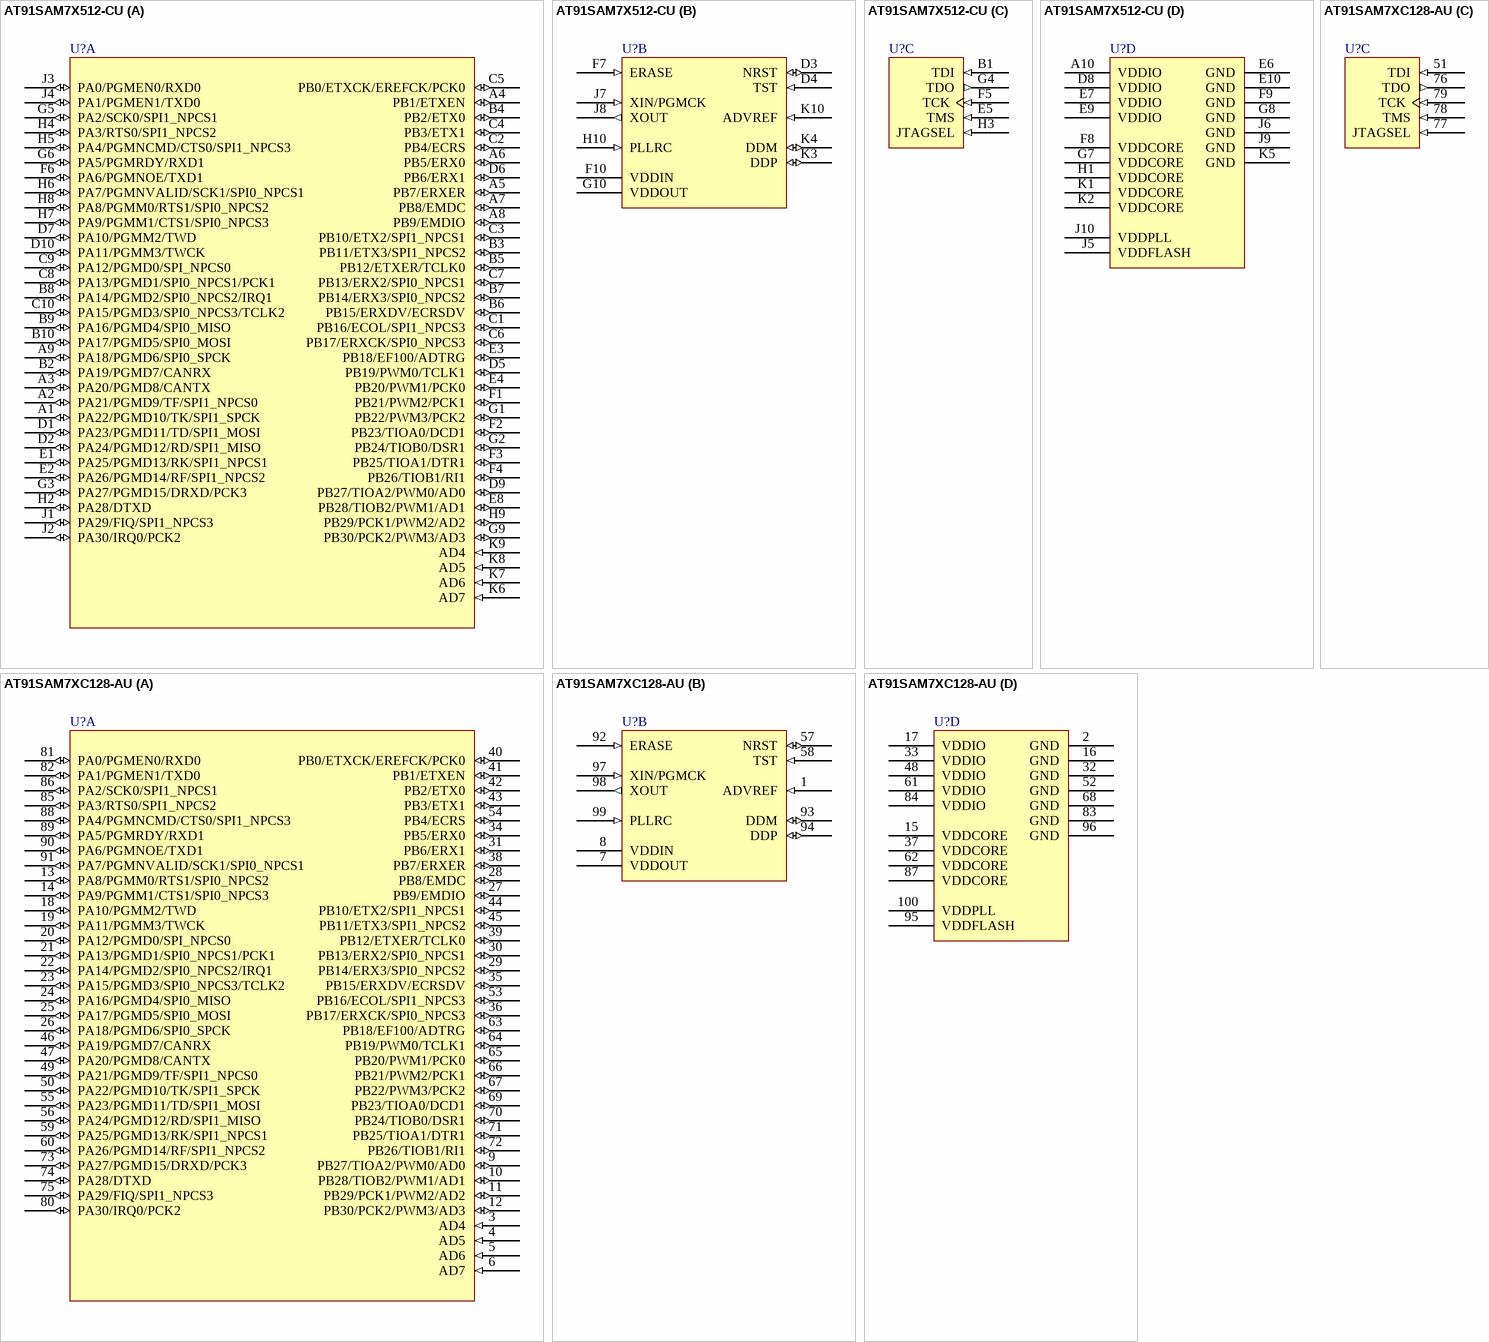
[diagram p22: symbols AT91SAM7X512-CU to AT91SAM7XC128-AU]

## AT91SAM7X512-CU
designator U?
AT91 ARM Thumb-based 32-bit Microcontroller, 512KB Flash, 128KB SRAM, E-MAC, CAN, 100-Pin TFBGA, Industrial Grade (-40°C to 85°C), Pb-Free; DatasheetVersion: revH, Feb-2009; PackageVersion: 2004; PackageReference: TFBGA100; PackageDescription: 100-Ball Thin Fine Ball Grid Array, 9 x 9 x1.1 mm Body, 0.80 mm Pitch; ComponentLink1Description: Manufacturer URL; ComponentLink1URL: http://www.atmel.com/; ComponentLink2Description: AT91SAM7X Series Datasheet; ComponentLink2URL: http://www.atmel.com/dyn/resources/prod_documents/doc6120.pdf; ComponentLink3Description: AT91SAM7X Series Summary; ComponentLink3URL: http://www.atmel.com/dyn/resources/prod_documents/6120s.pdf; ComponentLink4Description: ARM7TDMI Reference Manual; ComponentLink4URL: http://www.atmel.com/dyn/resources/prod_documents/DDI0029G_7TDMI_R3_trm.pdf
footprint TFBGA100 (BGA, 100-Leads, Body 9x9mm, Pitch 0.8mm)
part A pins: A1 PA22/PGMD10/TK/SPI1_SPCK (io), A2 PA21/PGMD9/TF/SPI1_NPCS0 (io), A3 PA20/PGMD8/CANTX (io), A4 PB1/ETXEN (io), A5 PB7/ERXER (io), A6 PB5/ERX0 (io), A7 PB8/EMDC (io), A8 PB9/EMDIO (io), A9 PA18/PGMD6/SPI0_SPCK (io), B2 PA19/PGMD7/CANRX (io), B3 PB11/ETX3/SPI1_NPCS2 (io), B4 PB2/ETX0 (io), B5 PB12/ETXER/TCLK0 (io), B6 PB15/ERXDV/ECRSDV (io), B7 PB14/ERX3/SPI0_NPCS2 (io), B8 PA14/PGMD2/SPI0_NPCS2/IRQ1 (io), B9 PA16/PGMD4/SPI0_MISO (io), B10 PA17/PGMD5/SPI0_MOSI (io), C1 PB16/ECOL/SPI1_NPCS3 (io), C2 PB4/ECRS (io), C3 PB10/ETX2/SPI1_NPCS1 (io), C4 PB3/ETX1 (io), C5 PB0/ETXCK/EREFCK/PCK0 (io), C6 PB17/ERXCK/SPI0_NPCS3 (io), C7 PB13/ERX2/SPI0_NPCS1 (io), C8 PA13/PGMD1/SPI0_NPCS1/PCK1 (io), C9 PA12/PGMD0/SPI_NPCS0 (io), C10 PA15/PGMD3/SPI0_NPCS3/TCLK2 (io), D1 PA23/PGMD11/TD/SPI1_MOSI (io), D2 PA24/PGMD12/RD/SPI1_MISO (io), D5 PB19/PWM0/TCLK1 (io), D6 PB6/ERX1 (io), D7 PA10/PGMM2/TWD (io), D9 PB27/TIOA2/PWM0/AD0 (io), D10 PA11/PGMM3/TWCK (io), E1 PA25/PGMD13/RK/SPI1_NPCS1 (io), E2 PA26/PGMD14/RF/SPI1_NPCS2 (io), E3 PB18/EF100/ADTRG (io), E4 PB20/PWM1/PCK0 (io), E8 PB28/TIOB2/PWM1/AD1 (io), F1 PB21/PWM2/PCK1 (io), F2 PB23/TIOA0/DCD1 (io), F3 PB25/TIOA1/DTR1 (io), F4 PB26/TIOB1/RI1 (io), F6 PA6/PGMNOE/TXD1 (io), G1 PB22/PWM3/PCK2 (io), G2 PB24/TIOB0/DSR1 (io), G3 PA27/PGMD15/DRXD/PCK3 (io), G5 PA2/SCK0/SPI1_NPCS1 (io), G6 PA5/PGMRDY/RXD1 (io), G9 PB30/PCK2/PWM3/AD3 (io), H2 PA28/DTXD (io), H4 PA3/RTS0/SPI1_NPCS2 (io), H5 PA4/PGMNCMD/CTS0/SPI1_NPCS3 (io), H6 PA7/PGMNVALID/SCK1/SPI0_NPCS1 (io), H7 PA9/PGMM1/CTS1/SPI0_NPCS3 (io), H8 PA8/PGMM0/RTS1/SPI0_NPCS2 (io), H9 PB29/PCK1/PWM2/AD2 (io), J1 PA29/FIQ/SPI1_NPCS3 (io), J2 PA30/IRQ0/PCK2 (io), J3 PA0/PGMEN0/RXD0 (io), J4 PA1/PGMEN1/TXD0 (io), K6 AD7 (in), K7 AD6 (in), K8 AD5 (in), K9 AD4 (in)
part B pins: D3 NRST (io), D4 TST (in), F7 ERASE (in), F10 VDDIN (power), G10 VDDOUT (power), H10 PLLRC (in), J7 XIN/PGMCK (in), J8 XOUT (out), K3 DDP (io), K4 DDM (io), K10 ADVREF (in)
part C pins: B1 TDI (in), E5 TMS (in), F5 TCK (in), G4 TDO (out), H3 JTAGSEL (in)
part D pins: A10 VDDIO (power), D8 VDDIO (power), E6 GND (power), E7 VDDIO (power), E9 VDDIO (power), E10 GND (power), F8 VDDCORE (power), F9 GND (power), G7 VDDCORE (power), G8 GND (power), H1 VDDCORE (power), J5 VDDFLASH (power), J6 GND (power), J9 GND (power), J10 VDDPLL (power), K1 VDDCORE (power), K2 VDDCORE (power), K5 GND (power)

## AT91SAM7XC128-AU
designator U?
AT91 ARM Thumb-based 32-bit Microcontroller, 128KB Flash, 32KB SRAM, E-MAC, CAN, 100-Pin LQFP, Industrial Grade (-40°C to 85°C), Pb-Free; DatasheetVersion: revDS, Feb-2009; PackageVersion: Apr-2006; PackageReference: LQFP100; PackageDescription: 100-Pin Thin Quad Flat Pack 0.5 mm Pitch; Code_JEDEC: MS-026-BED; ComponentLink1Description: Manufacturer URL; ComponentLink1URL: http://www.atmel.com/; ComponentLink2Description: AT91SAM7XC Series Summary; ComponentLink2URL: http://www.atmel.com/dyn/resources/prod_documents/6209s.pdf; ComponentLink3Description: ARM7TDMI Reference Manual; ComponentLink3URL: http://www.atmel.com/dyn/resources/prod_documents/DDI0029G_7TDMI_R3_trm.pdf
footprint LQFP100_N (Thin QFP, 100-Leads, Body 14x14mm, Pitch 0.5mm, IPC Medium Density)
footprint LQFP100_L (Thin QFP, 100-Leads, Body 14x14mm, Pitch 0.5mm, IPC High Density)
footprint LQFP100_M (Thin QFP, 100-Leads, Body 14x14mm, Pitch 0.5mm, IPC Low Density)
part A pins: 3 AD4 (in), 4 AD5 (in), 5 AD6 (in), 6 AD7 (in), 9 PB27/TIOA2/PWM0/AD0 (io), 10 PB28/TIOB2/PWM1/AD1 (io), 11 PB29/PCK1/PWM2/AD2 (io), 12 PB30/PCK2/PWM3/AD3 (io), 13 PA8/PGMM0/RTS1/SPI0_NPCS2 (io), 14 PA9/PGMM1/CTS1/SPI0_NPCS3 (io), 18 PA10/PGMM2/TWD (io), 19 PA11/PGMM3/TWCK (io), 20 PA12/PGMD0/SPI_NPCS0 (io), 21 PA13/PGMD1/SPI0_NPCS1/PCK1 (io), 22 PA14/PGMD2/SPI0_NPCS2/IRQ1 (io), 23 PA15/PGMD3/SPI0_NPCS3/TCLK2 (io), 24 PA16/PGMD4/SPI0_MISO (io), 25 PA17/PGMD5/SPI0_MOSI (io), 26 PA18/PGMD6/SPI0_SPCK (io), 27 PB9/EMDIO (io), 28 PB8/EMDC (io), 29 PB14/ERX3/SPI0_NPCS2 (io), 30 PB13/ERX2/SPI0_NPCS1 (io), 31 PB6/ERX1 (io), 34 PB5/ERX0 (io), 35 PB15/ERXDV/ECRSDV (io), 36 PB17/ERXCK/SPI0_NPCS3 (io), 38 PB7/ERXER (io), 39 PB12/ETXER/TCLK0 (io), 40 PB0/ETXCK/EREFCK/PCK0 (io), 41 PB1/ETXEN (io), 42 PB2/ETX0 (io), 43 PB3/ETX1 (io), 44 PB10/ETX2/SPI1_NPCS1 (io), 45 PB11/ETX3/SPI1_NPCS2 (io), 46 PA19/PGMD7/CANRX (io), 47 PA20/PGMD8/CANTX (io), 49 PA21/PGMD9/TF/SPI1_NPCS0 (io), 50 PA22/PGMD10/TK/SPI1_SPCK (io), 53 PB16/ECOL/SPI1_NPCS3 (io), 54 PB4/ECRS (io), 55 PA23/PGMD11/TD/SPI1_MOSI (io), 56 PA24/PGMD12/RD/SPI1_MISO (io), 59 PA25/PGMD13/RK/SPI1_NPCS1 (io), 60 PA26/PGMD14/RF/SPI1_NPCS2 (io), 63 PB18/EF100/ADTRG (io), 64 PB19/PWM0/TCLK1 (io), 65 PB20/PWM1/PCK0 (io), 66 PB21/PWM2/PCK1 (io), 67 PB22/PWM3/PCK2 (io), 69 PB23/TIOA0/DCD1 (io), 70 PB24/TIOB0/DSR1 (io), 71 PB25/TIOA1/DTR1 (io), 72 PB26/TIOB1/RI1 (io), 73 PA27/PGMD15/DRXD/PCK3 (io), 74 PA28/DTXD (io), 75 PA29/FIQ/SPI1_NPCS3 (io), 80 PA30/IRQ0/PCK2 (io), 81 PA0/PGMEN0/RXD0 (io), 82 PA1/PGMEN1/TXD0 (io), 85 PA3/RTS0/SPI1_NPCS2 (io), 86 PA2/SCK0/SPI1_NPCS1 (io), 88 PA4/PGMNCMD/CTS0/SPI1_NPCS3 (io), 89 PA5/PGMRDY/RXD1 (io), 90 PA6/PGMNOE/TXD1 (io), 91 PA7/PGMNVALID/SCK1/SPI0_NPCS1 (io)
part B pins: 1 ADVREF (in), 7 VDDOUT (power), 8 VDDIN (power), 57 NRST (io), 58 TST (in), 92 ERASE (in), 93 DDM (io), 94 DDP (io), 97 XIN/PGMCK (in), 98 XOUT (out), 99 PLLRC (in)
part C pins: 51 TDI (in), 76 TDO (out), 77 JTAGSEL (in), 78 TMS (in), 79 TCK (in)
part D pins: 2 GND (power), 15 VDDCORE (power), 16 GND (power), 17 VDDIO (power), 32 GND (power), 33 VDDIO (power), 37 VDDCORE (power), 48 VDDIO (power), 52 GND (power), 61 VDDIO (power), 62 VDDCORE (power), 68 GND (power), 83 GND (power), 84 VDDIO (power), 87 VDDCORE (power), 95 VDDFLASH (power), 96 GND (power), 100 VDDPLL (power)

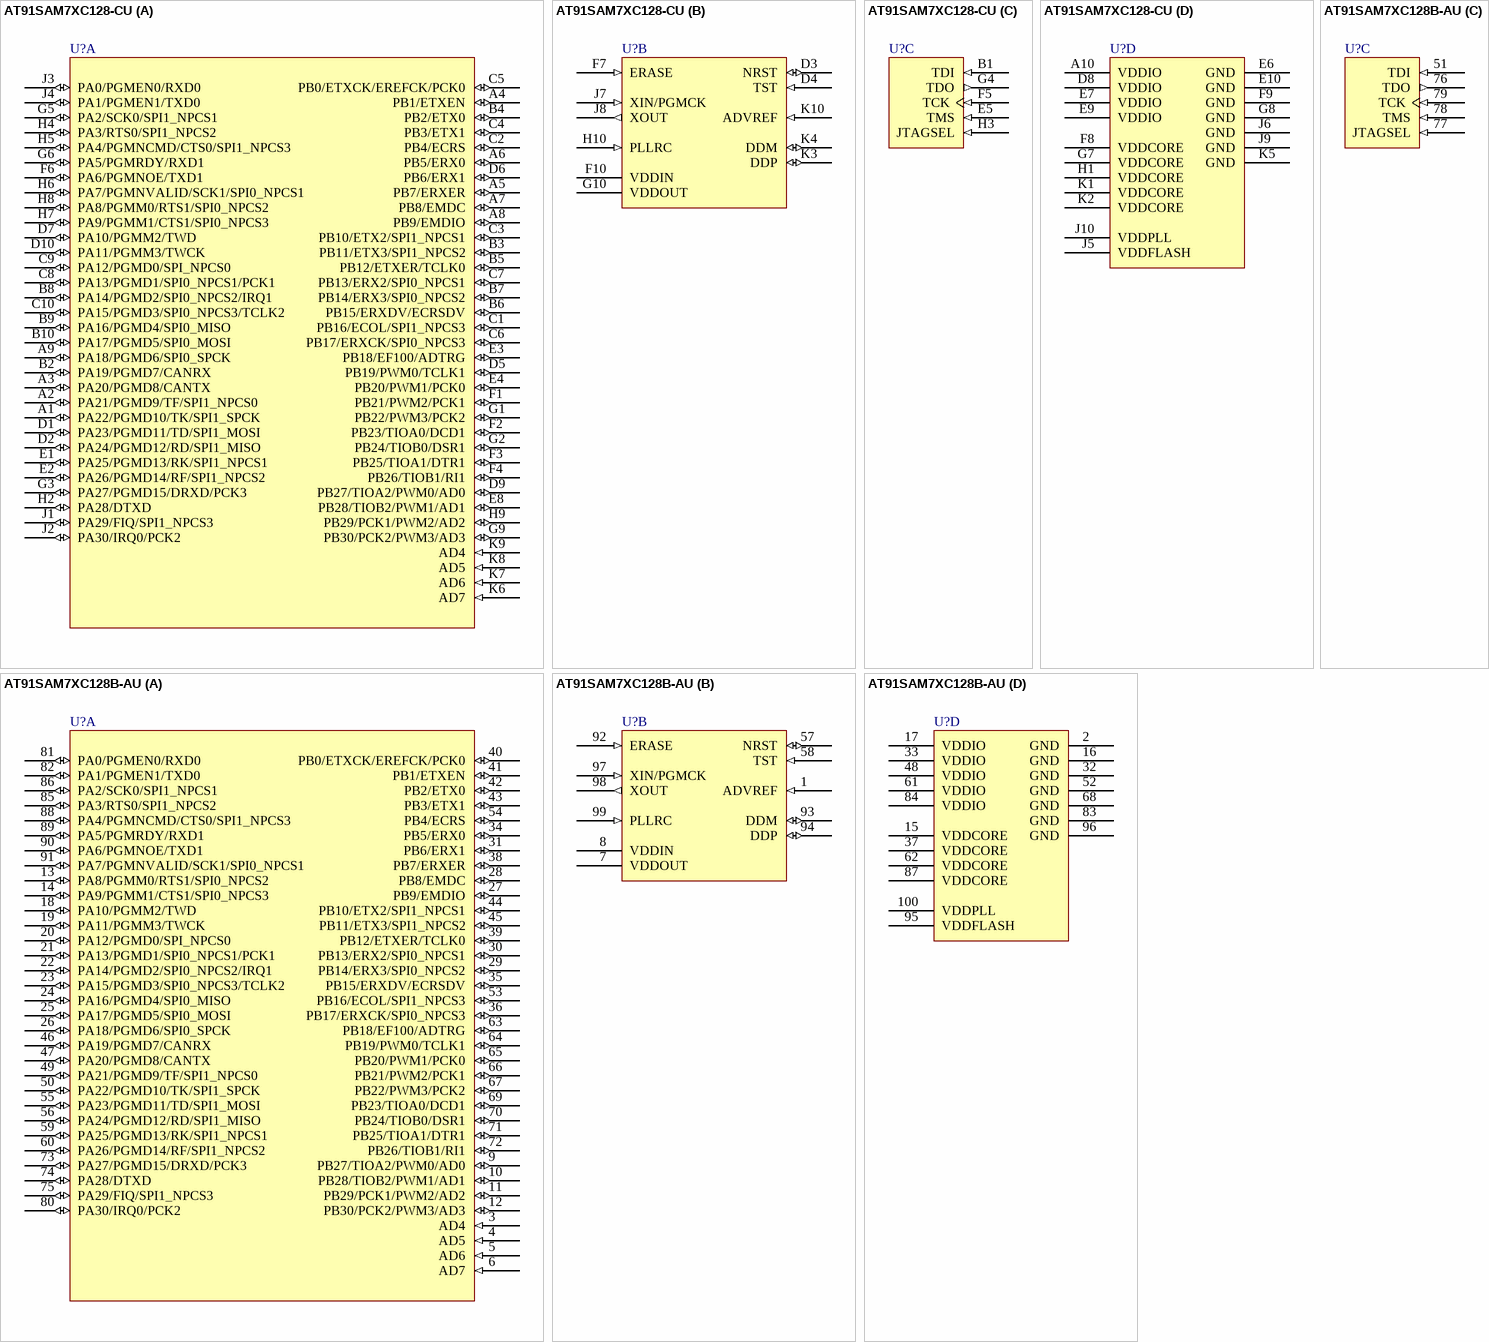
[diagram p23: symbols AT91SAM7XC128-CU to AT91SAM7XC128B-AU]

## AT91SAM7XC128-CU
designator U?
AT91 ARM Thumb-based 32-bit Microcontroller, 128KB Flash, 32KB SRAM, E-MAC, CAN, 100-Pin TFBGA, Industrial Grade (-40°C to 85°C), Pb-Free; DatasheetVersion: revDS, Feb-2009; PackageVersion: 2004; PackageReference: TFBGA100; PackageDescription: 100-Ball Thin Fine Ball Grid Array, 9 x 9 x1.1 mm Body, 0.80 mm Pitch; ComponentLink1Description: Manufacturer URL; ComponentLink1URL: http://www.atmel.com/; ComponentLink2Description: AT91SAM7XC Series Summary; ComponentLink2URL: http://www.atmel.com/dyn/resources/prod_documents/6209s.pdf; ComponentLink3Description: ARM7TDMI Reference Manual; ComponentLink3URL: http://www.atmel.com/dyn/resources/prod_documents/DDI0029G_7TDMI_R3_trm.pdf
footprint TFBGA100 (BGA, 100-Leads, Body 9x9mm, Pitch 0.8mm)
part A pins: A1 PA22/PGMD10/TK/SPI1_SPCK (io), A2 PA21/PGMD9/TF/SPI1_NPCS0 (io), A3 PA20/PGMD8/CANTX (io), A4 PB1/ETXEN (io), A5 PB7/ERXER (io), A6 PB5/ERX0 (io), A7 PB8/EMDC (io), A8 PB9/EMDIO (io), A9 PA18/PGMD6/SPI0_SPCK (io), B2 PA19/PGMD7/CANRX (io), B3 PB11/ETX3/SPI1_NPCS2 (io), B4 PB2/ETX0 (io), B5 PB12/ETXER/TCLK0 (io), B6 PB15/ERXDV/ECRSDV (io), B7 PB14/ERX3/SPI0_NPCS2 (io), B8 PA14/PGMD2/SPI0_NPCS2/IRQ1 (io), B9 PA16/PGMD4/SPI0_MISO (io), B10 PA17/PGMD5/SPI0_MOSI (io), C1 PB16/ECOL/SPI1_NPCS3 (io), C2 PB4/ECRS (io), C3 PB10/ETX2/SPI1_NPCS1 (io), C4 PB3/ETX1 (io), C5 PB0/ETXCK/EREFCK/PCK0 (io), C6 PB17/ERXCK/SPI0_NPCS3 (io), C7 PB13/ERX2/SPI0_NPCS1 (io), C8 PA13/PGMD1/SPI0_NPCS1/PCK1 (io), C9 PA12/PGMD0/SPI_NPCS0 (io), C10 PA15/PGMD3/SPI0_NPCS3/TCLK2 (io), D1 PA23/PGMD11/TD/SPI1_MOSI (io), D2 PA24/PGMD12/RD/SPI1_MISO (io), D5 PB19/PWM0/TCLK1 (io), D6 PB6/ERX1 (io), D7 PA10/PGMM2/TWD (io), D9 PB27/TIOA2/PWM0/AD0 (io), D10 PA11/PGMM3/TWCK (io), E1 PA25/PGMD13/RK/SPI1_NPCS1 (io), E2 PA26/PGMD14/RF/SPI1_NPCS2 (io), E3 PB18/EF100/ADTRG (io), E4 PB20/PWM1/PCK0 (io), E8 PB28/TIOB2/PWM1/AD1 (io), F1 PB21/PWM2/PCK1 (io), F2 PB23/TIOA0/DCD1 (io), F3 PB25/TIOA1/DTR1 (io), F4 PB26/TIOB1/RI1 (io), F6 PA6/PGMNOE/TXD1 (io), G1 PB22/PWM3/PCK2 (io), G2 PB24/TIOB0/DSR1 (io), G3 PA27/PGMD15/DRXD/PCK3 (io), G5 PA2/SCK0/SPI1_NPCS1 (io), G6 PA5/PGMRDY/RXD1 (io), G9 PB30/PCK2/PWM3/AD3 (io), H2 PA28/DTXD (io), H4 PA3/RTS0/SPI1_NPCS2 (io), H5 PA4/PGMNCMD/CTS0/SPI1_NPCS3 (io), H6 PA7/PGMNVALID/SCK1/SPI0_NPCS1 (io), H7 PA9/PGMM1/CTS1/SPI0_NPCS3 (io), H8 PA8/PGMM0/RTS1/SPI0_NPCS2 (io), H9 PB29/PCK1/PWM2/AD2 (io), J1 PA29/FIQ/SPI1_NPCS3 (io), J2 PA30/IRQ0/PCK2 (io), J3 PA0/PGMEN0/RXD0 (io), J4 PA1/PGMEN1/TXD0 (io), K6 AD7 (in), K7 AD6 (in), K8 AD5 (in), K9 AD4 (in)
part B pins: D3 NRST (io), D4 TST (in), F7 ERASE (in), F10 VDDIN (power), G10 VDDOUT (power), H10 PLLRC (in), J7 XIN/PGMCK (in), J8 XOUT (out), K3 DDP (io), K4 DDM (io), K10 ADVREF (in)
part C pins: B1 TDI (in), E5 TMS (in), F5 TCK (in), G4 TDO (out), H3 JTAGSEL (in)
part D pins: A10 VDDIO (power), D8 VDDIO (power), E6 GND (power), E7 VDDIO (power), E9 VDDIO (power), E10 GND (power), F8 VDDCORE (power), F9 GND (power), G7 VDDCORE (power), G8 GND (power), H1 VDDCORE (power), J5 VDDFLASH (power), J6 GND (power), J9 GND (power), J10 VDDPLL (power), K1 VDDCORE (power), K2 VDDCORE (power), K5 GND (power)

## AT91SAM7XC128B-AU
designator U?
AT91 ARM Thumb-based 32-bit Microcontroller, 128KB Flash, 32KB SRAM, E-MAC, CAN, 100-Pin LQFP, Industrial Grade (-40°C to 85°C), Pb-Free; DatasheetVersion: revDS, Feb-2009; PackageVersion: Apr-2006; PackageReference: LQFP100; PackageDescription: 100-Pin Thin Quad Flat Pack 0.5 mm Pitch; Code_JEDEC: MS-026-BED; ComponentLink1Description: Manufacturer URL; ComponentLink1URL: http://www.atmel.com/; ComponentLink2Description: AT91SAM7XC Series Summary; ComponentLink2URL: http://www.atmel.com/dyn/resources/prod_documents/6209s.pdf; ComponentLink3Description: ARM7TDMI Reference Manual; ComponentLink3URL: http://www.atmel.com/dyn/resources/prod_documents/DDI0029G_7TDMI_R3_trm.pdf
footprint LQFP100_N (Thin QFP, 100-Leads, Body 14x14mm, Pitch 0.5mm, IPC Medium Density)
footprint LQFP100_L (Thin QFP, 100-Leads, Body 14x14mm, Pitch 0.5mm, IPC High Density)
footprint LQFP100_M (Thin QFP, 100-Leads, Body 14x14mm, Pitch 0.5mm, IPC Low Density)
part A pins: 3 AD4 (in), 4 AD5 (in), 5 AD6 (in), 6 AD7 (in), 9 PB27/TIOA2/PWM0/AD0 (io), 10 PB28/TIOB2/PWM1/AD1 (io), 11 PB29/PCK1/PWM2/AD2 (io), 12 PB30/PCK2/PWM3/AD3 (io), 13 PA8/PGMM0/RTS1/SPI0_NPCS2 (io), 14 PA9/PGMM1/CTS1/SPI0_NPCS3 (io), 18 PA10/PGMM2/TWD (io), 19 PA11/PGMM3/TWCK (io), 20 PA12/PGMD0/SPI_NPCS0 (io), 21 PA13/PGMD1/SPI0_NPCS1/PCK1 (io), 22 PA14/PGMD2/SPI0_NPCS2/IRQ1 (io), 23 PA15/PGMD3/SPI0_NPCS3/TCLK2 (io), 24 PA16/PGMD4/SPI0_MISO (io), 25 PA17/PGMD5/SPI0_MOSI (io), 26 PA18/PGMD6/SPI0_SPCK (io), 27 PB9/EMDIO (io), 28 PB8/EMDC (io), 29 PB14/ERX3/SPI0_NPCS2 (io), 30 PB13/ERX2/SPI0_NPCS1 (io), 31 PB6/ERX1 (io), 34 PB5/ERX0 (io), 35 PB15/ERXDV/ECRSDV (io), 36 PB17/ERXCK/SPI0_NPCS3 (io), 38 PB7/ERXER (io), 39 PB12/ETXER/TCLK0 (io), 40 PB0/ETXCK/EREFCK/PCK0 (io), 41 PB1/ETXEN (io), 42 PB2/ETX0 (io), 43 PB3/ETX1 (io), 44 PB10/ETX2/SPI1_NPCS1 (io), 45 PB11/ETX3/SPI1_NPCS2 (io), 46 PA19/PGMD7/CANRX (io), 47 PA20/PGMD8/CANTX (io), 49 PA21/PGMD9/TF/SPI1_NPCS0 (io), 50 PA22/PGMD10/TK/SPI1_SPCK (io), 53 PB16/ECOL/SPI1_NPCS3 (io), 54 PB4/ECRS (io), 55 PA23/PGMD11/TD/SPI1_MOSI (io), 56 PA24/PGMD12/RD/SPI1_MISO (io), 59 PA25/PGMD13/RK/SPI1_NPCS1 (io), 60 PA26/PGMD14/RF/SPI1_NPCS2 (io), 63 PB18/EF100/ADTRG (io), 64 PB19/PWM0/TCLK1 (io), 65 PB20/PWM1/PCK0 (io), 66 PB21/PWM2/PCK1 (io), 67 PB22/PWM3/PCK2 (io), 69 PB23/TIOA0/DCD1 (io), 70 PB24/TIOB0/DSR1 (io), 71 PB25/TIOA1/DTR1 (io), 72 PB26/TIOB1/RI1 (io), 73 PA27/PGMD15/DRXD/PCK3 (io), 74 PA28/DTXD (io), 75 PA29/FIQ/SPI1_NPCS3 (io), 80 PA30/IRQ0/PCK2 (io), 81 PA0/PGMEN0/RXD0 (io), 82 PA1/PGMEN1/TXD0 (io), 85 PA3/RTS0/SPI1_NPCS2 (io), 86 PA2/SCK0/SPI1_NPCS1 (io), 88 PA4/PGMNCMD/CTS0/SPI1_NPCS3 (io), 89 PA5/PGMRDY/RXD1 (io), 90 PA6/PGMNOE/TXD1 (io), 91 PA7/PGMNVALID/SCK1/SPI0_NPCS1 (io)
part B pins: 1 ADVREF (in), 7 VDDOUT (power), 8 VDDIN (power), 57 NRST (io), 58 TST (in), 92 ERASE (in), 93 DDM (io), 94 DDP (io), 97 XIN/PGMCK (in), 98 XOUT (out), 99 PLLRC (in)
part C pins: 51 TDI (in), 76 TDO (out), 77 JTAGSEL (in), 78 TMS (in), 79 TCK (in)
part D pins: 2 GND (power), 15 VDDCORE (power), 16 GND (power), 17 VDDIO (power), 32 GND (power), 33 VDDIO (power), 37 VDDCORE (power), 48 VDDIO (power), 52 GND (power), 61 VDDIO (power), 62 VDDCORE (power), 68 GND (power), 83 GND (power), 84 VDDIO (power), 87 VDDCORE (power), 95 VDDFLASH (power), 96 GND (power), 100 VDDPLL (power)

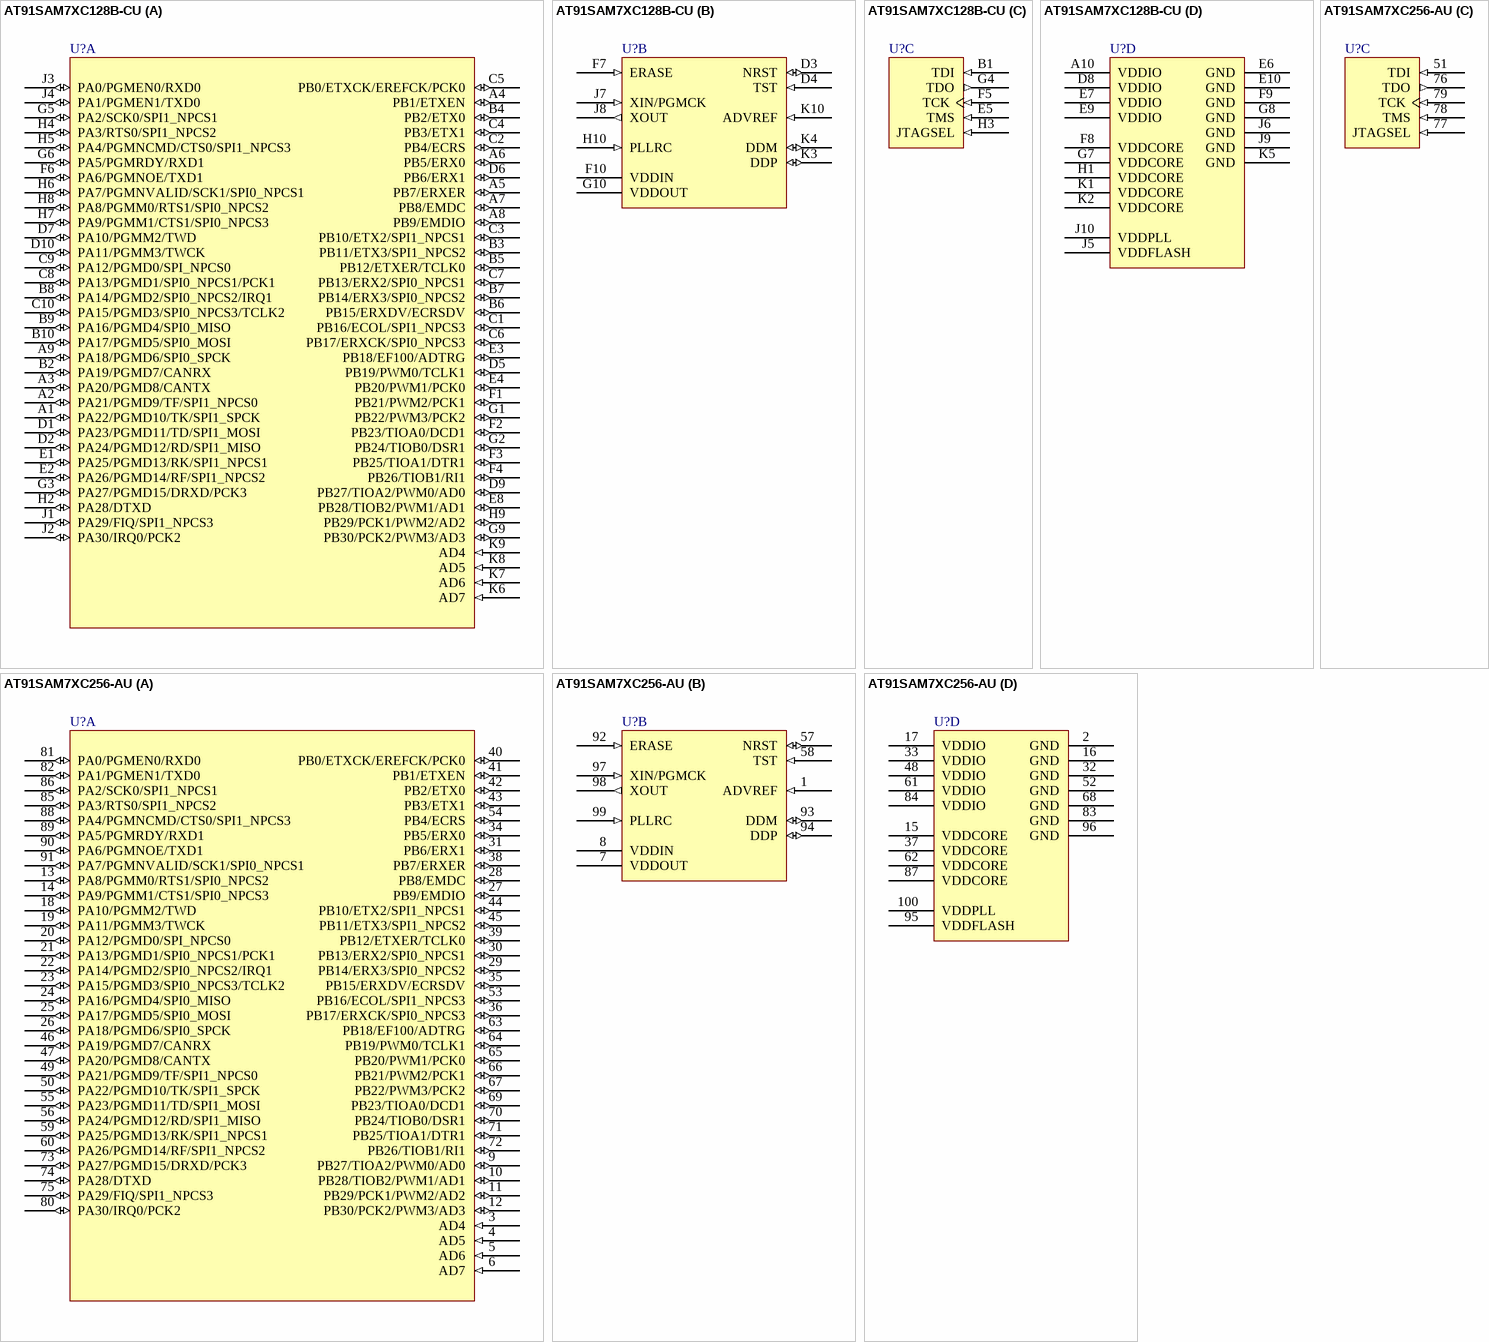
[diagram p24: symbols AT91SAM7XC128B-CU to AT91SAM7XC256-AU]

## AT91SAM7XC128B-CU
designator U?
AT91 ARM Thumb-based 32-bit Microcontroller, 128KB Flash, 32KB SRAM, E-MAC, CAN, 100-Pin TFBGA, Industrial Grade (-40°C to 85°C), Pb-Free; DatasheetVersion: revDS, Feb-2009; PackageVersion: 2004; PackageReference: TFBGA100; PackageDescription: 100-Ball Thin Fine Ball Grid Array, 9 x 9 x1.1 mm Body, 0.80 mm Pitch; ComponentLink1Description: Manufacturer URL; ComponentLink1URL: http://www.atmel.com/; ComponentLink2Description: AT91SAM7XC Series Summary; ComponentLink2URL: http://www.atmel.com/dyn/resources/prod_documents/6209s.pdf; ComponentLink3Description: ARM7TDMI Reference Manual; ComponentLink3URL: http://www.atmel.com/dyn/resources/prod_documents/DDI0029G_7TDMI_R3_trm.pdf
footprint TFBGA100 (BGA, 100-Leads, Body 9x9mm, Pitch 0.8mm)
part A pins: A1 PA22/PGMD10/TK/SPI1_SPCK (io), A2 PA21/PGMD9/TF/SPI1_NPCS0 (io), A3 PA20/PGMD8/CANTX (io), A4 PB1/ETXEN (io), A5 PB7/ERXER (io), A6 PB5/ERX0 (io), A7 PB8/EMDC (io), A8 PB9/EMDIO (io), A9 PA18/PGMD6/SPI0_SPCK (io), B2 PA19/PGMD7/CANRX (io), B3 PB11/ETX3/SPI1_NPCS2 (io), B4 PB2/ETX0 (io), B5 PB12/ETXER/TCLK0 (io), B6 PB15/ERXDV/ECRSDV (io), B7 PB14/ERX3/SPI0_NPCS2 (io), B8 PA14/PGMD2/SPI0_NPCS2/IRQ1 (io), B9 PA16/PGMD4/SPI0_MISO (io), B10 PA17/PGMD5/SPI0_MOSI (io), C1 PB16/ECOL/SPI1_NPCS3 (io), C2 PB4/ECRS (io), C3 PB10/ETX2/SPI1_NPCS1 (io), C4 PB3/ETX1 (io), C5 PB0/ETXCK/EREFCK/PCK0 (io), C6 PB17/ERXCK/SPI0_NPCS3 (io), C7 PB13/ERX2/SPI0_NPCS1 (io), C8 PA13/PGMD1/SPI0_NPCS1/PCK1 (io), C9 PA12/PGMD0/SPI_NPCS0 (io), C10 PA15/PGMD3/SPI0_NPCS3/TCLK2 (io), D1 PA23/PGMD11/TD/SPI1_MOSI (io), D2 PA24/PGMD12/RD/SPI1_MISO (io), D5 PB19/PWM0/TCLK1 (io), D6 PB6/ERX1 (io), D7 PA10/PGMM2/TWD (io), D9 PB27/TIOA2/PWM0/AD0 (io), D10 PA11/PGMM3/TWCK (io), E1 PA25/PGMD13/RK/SPI1_NPCS1 (io), E2 PA26/PGMD14/RF/SPI1_NPCS2 (io), E3 PB18/EF100/ADTRG (io), E4 PB20/PWM1/PCK0 (io), E8 PB28/TIOB2/PWM1/AD1 (io), F1 PB21/PWM2/PCK1 (io), F2 PB23/TIOA0/DCD1 (io), F3 PB25/TIOA1/DTR1 (io), F4 PB26/TIOB1/RI1 (io), F6 PA6/PGMNOE/TXD1 (io), G1 PB22/PWM3/PCK2 (io), G2 PB24/TIOB0/DSR1 (io), G3 PA27/PGMD15/DRXD/PCK3 (io), G5 PA2/SCK0/SPI1_NPCS1 (io), G6 PA5/PGMRDY/RXD1 (io), G9 PB30/PCK2/PWM3/AD3 (io), H2 PA28/DTXD (io), H4 PA3/RTS0/SPI1_NPCS2 (io), H5 PA4/PGMNCMD/CTS0/SPI1_NPCS3 (io), H6 PA7/PGMNVALID/SCK1/SPI0_NPCS1 (io), H7 PA9/PGMM1/CTS1/SPI0_NPCS3 (io), H8 PA8/PGMM0/RTS1/SPI0_NPCS2 (io), H9 PB29/PCK1/PWM2/AD2 (io), J1 PA29/FIQ/SPI1_NPCS3 (io), J2 PA30/IRQ0/PCK2 (io), J3 PA0/PGMEN0/RXD0 (io), J4 PA1/PGMEN1/TXD0 (io), K6 AD7 (in), K7 AD6 (in), K8 AD5 (in), K9 AD4 (in)
part B pins: D3 NRST (io), D4 TST (in), F7 ERASE (in), F10 VDDIN (power), G10 VDDOUT (power), H10 PLLRC (in), J7 XIN/PGMCK (in), J8 XOUT (out), K3 DDP (io), K4 DDM (io), K10 ADVREF (in)
part C pins: B1 TDI (in), E5 TMS (in), F5 TCK (in), G4 TDO (out), H3 JTAGSEL (in)
part D pins: A10 VDDIO (power), D8 VDDIO (power), E6 GND (power), E7 VDDIO (power), E9 VDDIO (power), E10 GND (power), F8 VDDCORE (power), F9 GND (power), G7 VDDCORE (power), G8 GND (power), H1 VDDCORE (power), J5 VDDFLASH (power), J6 GND (power), J9 GND (power), J10 VDDPLL (power), K1 VDDCORE (power), K2 VDDCORE (power), K5 GND (power)

## AT91SAM7XC256-AU
designator U?
AT91 ARM Thumb-based 32-bit Microcontroller, 256KB Flash, 64KB SRAM, E-MAC, CAN, 100-Pin LQFP, Industrial Grade (-40°C to 85°C), Pb-Free; DatasheetVersion: revDS, Feb-2009; PackageVersion: Apr-2006; PackageReference: LQFP100; PackageDescription: 100-Pin Thin Quad Flat Pack 0.5 mm Pitch; Code_JEDEC: MS-026-BED; ComponentLink1Description: Manufacturer URL; ComponentLink1URL: http://www.atmel.com/; ComponentLink2Description: AT91SAM7XC Series Summary; ComponentLink2URL: http://www.atmel.com/dyn/resources/prod_documents/6209s.pdf; ComponentLink3Description: ARM7TDMI Reference Manual; ComponentLink3URL: http://www.atmel.com/dyn/resources/prod_documents/DDI0029G_7TDMI_R3_trm.pdf
footprint LQFP100_N (Thin QFP, 100-Leads, Body 14x14mm, Pitch 0.5mm, IPC Medium Density)
footprint LQFP100_L (Thin QFP, 100-Leads, Body 14x14mm, Pitch 0.5mm, IPC High Density)
footprint LQFP100_M (Thin QFP, 100-Leads, Body 14x14mm, Pitch 0.5mm, IPC Low Density)
part A pins: 3 AD4 (in), 4 AD5 (in), 5 AD6 (in), 6 AD7 (in), 9 PB27/TIOA2/PWM0/AD0 (io), 10 PB28/TIOB2/PWM1/AD1 (io), 11 PB29/PCK1/PWM2/AD2 (io), 12 PB30/PCK2/PWM3/AD3 (io), 13 PA8/PGMM0/RTS1/SPI0_NPCS2 (io), 14 PA9/PGMM1/CTS1/SPI0_NPCS3 (io), 18 PA10/PGMM2/TWD (io), 19 PA11/PGMM3/TWCK (io), 20 PA12/PGMD0/SPI_NPCS0 (io), 21 PA13/PGMD1/SPI0_NPCS1/PCK1 (io), 22 PA14/PGMD2/SPI0_NPCS2/IRQ1 (io), 23 PA15/PGMD3/SPI0_NPCS3/TCLK2 (io), 24 PA16/PGMD4/SPI0_MISO (io), 25 PA17/PGMD5/SPI0_MOSI (io), 26 PA18/PGMD6/SPI0_SPCK (io), 27 PB9/EMDIO (io), 28 PB8/EMDC (io), 29 PB14/ERX3/SPI0_NPCS2 (io), 30 PB13/ERX2/SPI0_NPCS1 (io), 31 PB6/ERX1 (io), 34 PB5/ERX0 (io), 35 PB15/ERXDV/ECRSDV (io), 36 PB17/ERXCK/SPI0_NPCS3 (io), 38 PB7/ERXER (io), 39 PB12/ETXER/TCLK0 (io), 40 PB0/ETXCK/EREFCK/PCK0 (io), 41 PB1/ETXEN (io), 42 PB2/ETX0 (io), 43 PB3/ETX1 (io), 44 PB10/ETX2/SPI1_NPCS1 (io), 45 PB11/ETX3/SPI1_NPCS2 (io), 46 PA19/PGMD7/CANRX (io), 47 PA20/PGMD8/CANTX (io), 49 PA21/PGMD9/TF/SPI1_NPCS0 (io), 50 PA22/PGMD10/TK/SPI1_SPCK (io), 53 PB16/ECOL/SPI1_NPCS3 (io), 54 PB4/ECRS (io), 55 PA23/PGMD11/TD/SPI1_MOSI (io), 56 PA24/PGMD12/RD/SPI1_MISO (io), 59 PA25/PGMD13/RK/SPI1_NPCS1 (io), 60 PA26/PGMD14/RF/SPI1_NPCS2 (io), 63 PB18/EF100/ADTRG (io), 64 PB19/PWM0/TCLK1 (io), 65 PB20/PWM1/PCK0 (io), 66 PB21/PWM2/PCK1 (io), 67 PB22/PWM3/PCK2 (io), 69 PB23/TIOA0/DCD1 (io), 70 PB24/TIOB0/DSR1 (io), 71 PB25/TIOA1/DTR1 (io), 72 PB26/TIOB1/RI1 (io), 73 PA27/PGMD15/DRXD/PCK3 (io), 74 PA28/DTXD (io), 75 PA29/FIQ/SPI1_NPCS3 (io), 80 PA30/IRQ0/PCK2 (io), 81 PA0/PGMEN0/RXD0 (io), 82 PA1/PGMEN1/TXD0 (io), 85 PA3/RTS0/SPI1_NPCS2 (io), 86 PA2/SCK0/SPI1_NPCS1 (io), 88 PA4/PGMNCMD/CTS0/SPI1_NPCS3 (io), 89 PA5/PGMRDY/RXD1 (io), 90 PA6/PGMNOE/TXD1 (io), 91 PA7/PGMNVALID/SCK1/SPI0_NPCS1 (io)
part B pins: 1 ADVREF (in), 7 VDDOUT (power), 8 VDDIN (power), 57 NRST (io), 58 TST (in), 92 ERASE (in), 93 DDM (io), 94 DDP (io), 97 XIN/PGMCK (in), 98 XOUT (out), 99 PLLRC (in)
part C pins: 51 TDI (in), 76 TDO (out), 77 JTAGSEL (in), 78 TMS (in), 79 TCK (in)
part D pins: 2 GND (power), 15 VDDCORE (power), 16 GND (power), 17 VDDIO (power), 32 GND (power), 33 VDDIO (power), 37 VDDCORE (power), 48 VDDIO (power), 52 GND (power), 61 VDDIO (power), 62 VDDCORE (power), 68 GND (power), 83 GND (power), 84 VDDIO (power), 87 VDDCORE (power), 95 VDDFLASH (power), 96 GND (power), 100 VDDPLL (power)

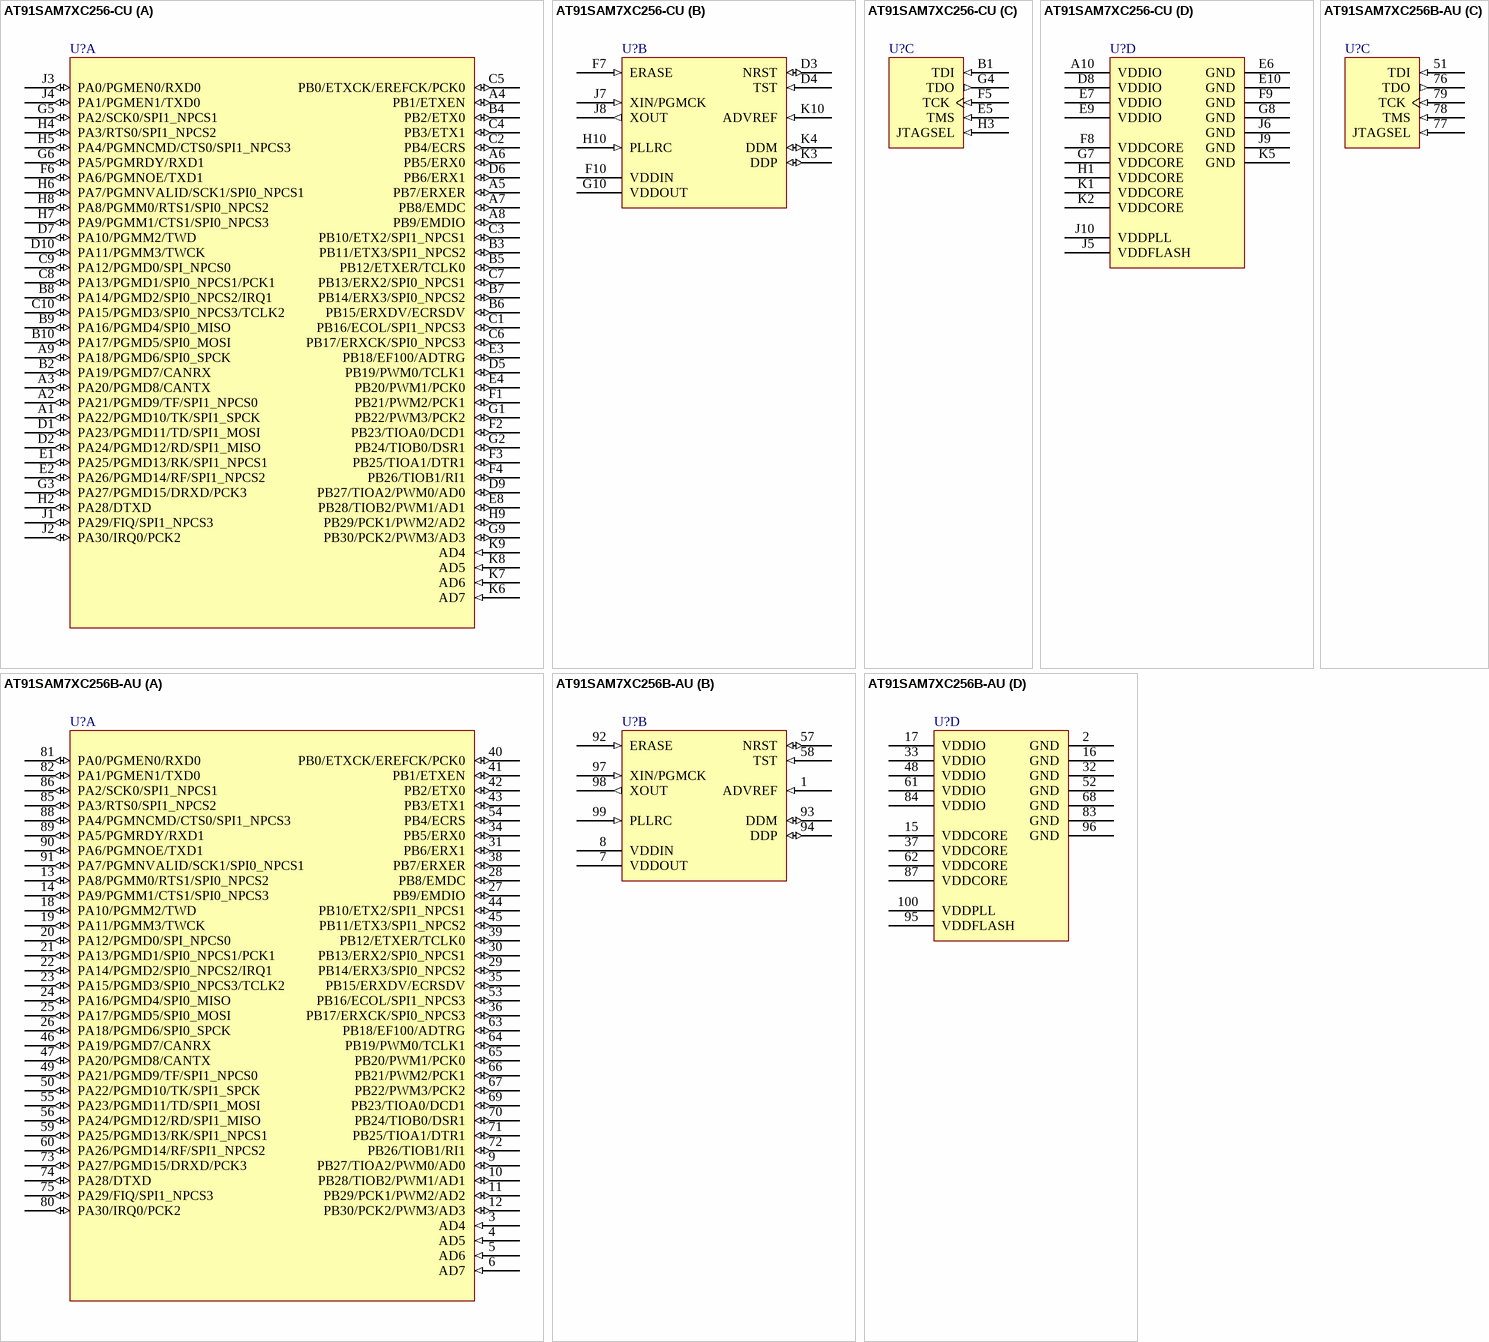
[diagram p25: symbols AT91SAM7XC256-CU to AT91SAM7XC256B-AU]

## AT91SAM7XC256-CU
designator U?
AT91 ARM Thumb-based 32-bit Microcontroller, 256KB Flash, 64KB SRAM, E-MAC, CAN, 100-Pin TFBGA, Industrial Grade (-40°C to 85°C), Pb-Free; DatasheetVersion: revDS, Feb-2009; PackageVersion: 2004; PackageReference: TFBGA100; PackageDescription: 100-Ball Thin Fine Ball Grid Array, 9 x 9 x1.1 mm Body, 0.80 mm Pitch; ComponentLink1Description: Manufacturer URL; ComponentLink1URL: http://www.atmel.com/; ComponentLink2Description: AT91SAM7XC Series Summary; ComponentLink2URL: http://www.atmel.com/dyn/resources/prod_documents/6209s.pdf; ComponentLink3Description: ARM7TDMI Reference Manual; ComponentLink3URL: http://www.atmel.com/dyn/resources/prod_documents/DDI0029G_7TDMI_R3_trm.pdf
footprint TFBGA100 (BGA, 100-Leads, Body 9x9mm, Pitch 0.8mm)
part A pins: A1 PA22/PGMD10/TK/SPI1_SPCK (io), A2 PA21/PGMD9/TF/SPI1_NPCS0 (io), A3 PA20/PGMD8/CANTX (io), A4 PB1/ETXEN (io), A5 PB7/ERXER (io), A6 PB5/ERX0 (io), A7 PB8/EMDC (io), A8 PB9/EMDIO (io), A9 PA18/PGMD6/SPI0_SPCK (io), B2 PA19/PGMD7/CANRX (io), B3 PB11/ETX3/SPI1_NPCS2 (io), B4 PB2/ETX0 (io), B5 PB12/ETXER/TCLK0 (io), B6 PB15/ERXDV/ECRSDV (io), B7 PB14/ERX3/SPI0_NPCS2 (io), B8 PA14/PGMD2/SPI0_NPCS2/IRQ1 (io), B9 PA16/PGMD4/SPI0_MISO (io), B10 PA17/PGMD5/SPI0_MOSI (io), C1 PB16/ECOL/SPI1_NPCS3 (io), C2 PB4/ECRS (io), C3 PB10/ETX2/SPI1_NPCS1 (io), C4 PB3/ETX1 (io), C5 PB0/ETXCK/EREFCK/PCK0 (io), C6 PB17/ERXCK/SPI0_NPCS3 (io), C7 PB13/ERX2/SPI0_NPCS1 (io), C8 PA13/PGMD1/SPI0_NPCS1/PCK1 (io), C9 PA12/PGMD0/SPI_NPCS0 (io), C10 PA15/PGMD3/SPI0_NPCS3/TCLK2 (io), D1 PA23/PGMD11/TD/SPI1_MOSI (io), D2 PA24/PGMD12/RD/SPI1_MISO (io), D5 PB19/PWM0/TCLK1 (io), D6 PB6/ERX1 (io), D7 PA10/PGMM2/TWD (io), D9 PB27/TIOA2/PWM0/AD0 (io), D10 PA11/PGMM3/TWCK (io), E1 PA25/PGMD13/RK/SPI1_NPCS1 (io), E2 PA26/PGMD14/RF/SPI1_NPCS2 (io), E3 PB18/EF100/ADTRG (io), E4 PB20/PWM1/PCK0 (io), E8 PB28/TIOB2/PWM1/AD1 (io), F1 PB21/PWM2/PCK1 (io), F2 PB23/TIOA0/DCD1 (io), F3 PB25/TIOA1/DTR1 (io), F4 PB26/TIOB1/RI1 (io), F6 PA6/PGMNOE/TXD1 (io), G1 PB22/PWM3/PCK2 (io), G2 PB24/TIOB0/DSR1 (io), G3 PA27/PGMD15/DRXD/PCK3 (io), G5 PA2/SCK0/SPI1_NPCS1 (io), G6 PA5/PGMRDY/RXD1 (io), G9 PB30/PCK2/PWM3/AD3 (io), H2 PA28/DTXD (io), H4 PA3/RTS0/SPI1_NPCS2 (io), H5 PA4/PGMNCMD/CTS0/SPI1_NPCS3 (io), H6 PA7/PGMNVALID/SCK1/SPI0_NPCS1 (io), H7 PA9/PGMM1/CTS1/SPI0_NPCS3 (io), H8 PA8/PGMM0/RTS1/SPI0_NPCS2 (io), H9 PB29/PCK1/PWM2/AD2 (io), J1 PA29/FIQ/SPI1_NPCS3 (io), J2 PA30/IRQ0/PCK2 (io), J3 PA0/PGMEN0/RXD0 (io), J4 PA1/PGMEN1/TXD0 (io), K6 AD7 (in), K7 AD6 (in), K8 AD5 (in), K9 AD4 (in)
part B pins: D3 NRST (io), D4 TST (in), F7 ERASE (in), F10 VDDIN (power), G10 VDDOUT (power), H10 PLLRC (in), J7 XIN/PGMCK (in), J8 XOUT (out), K3 DDP (io), K4 DDM (io), K10 ADVREF (in)
part C pins: B1 TDI (in), E5 TMS (in), F5 TCK (in), G4 TDO (out), H3 JTAGSEL (in)
part D pins: A10 VDDIO (power), D8 VDDIO (power), E6 GND (power), E7 VDDIO (power), E9 VDDIO (power), E10 GND (power), F8 VDDCORE (power), F9 GND (power), G7 VDDCORE (power), G8 GND (power), H1 VDDCORE (power), J5 VDDFLASH (power), J6 GND (power), J9 GND (power), J10 VDDPLL (power), K1 VDDCORE (power), K2 VDDCORE (power), K5 GND (power)